# Altium integrated library Altera FLEX 8000.IntLib: 65 symbols (part 1 of 5)
Pins are listed as number, name and electrical type; pins without a type are passive.

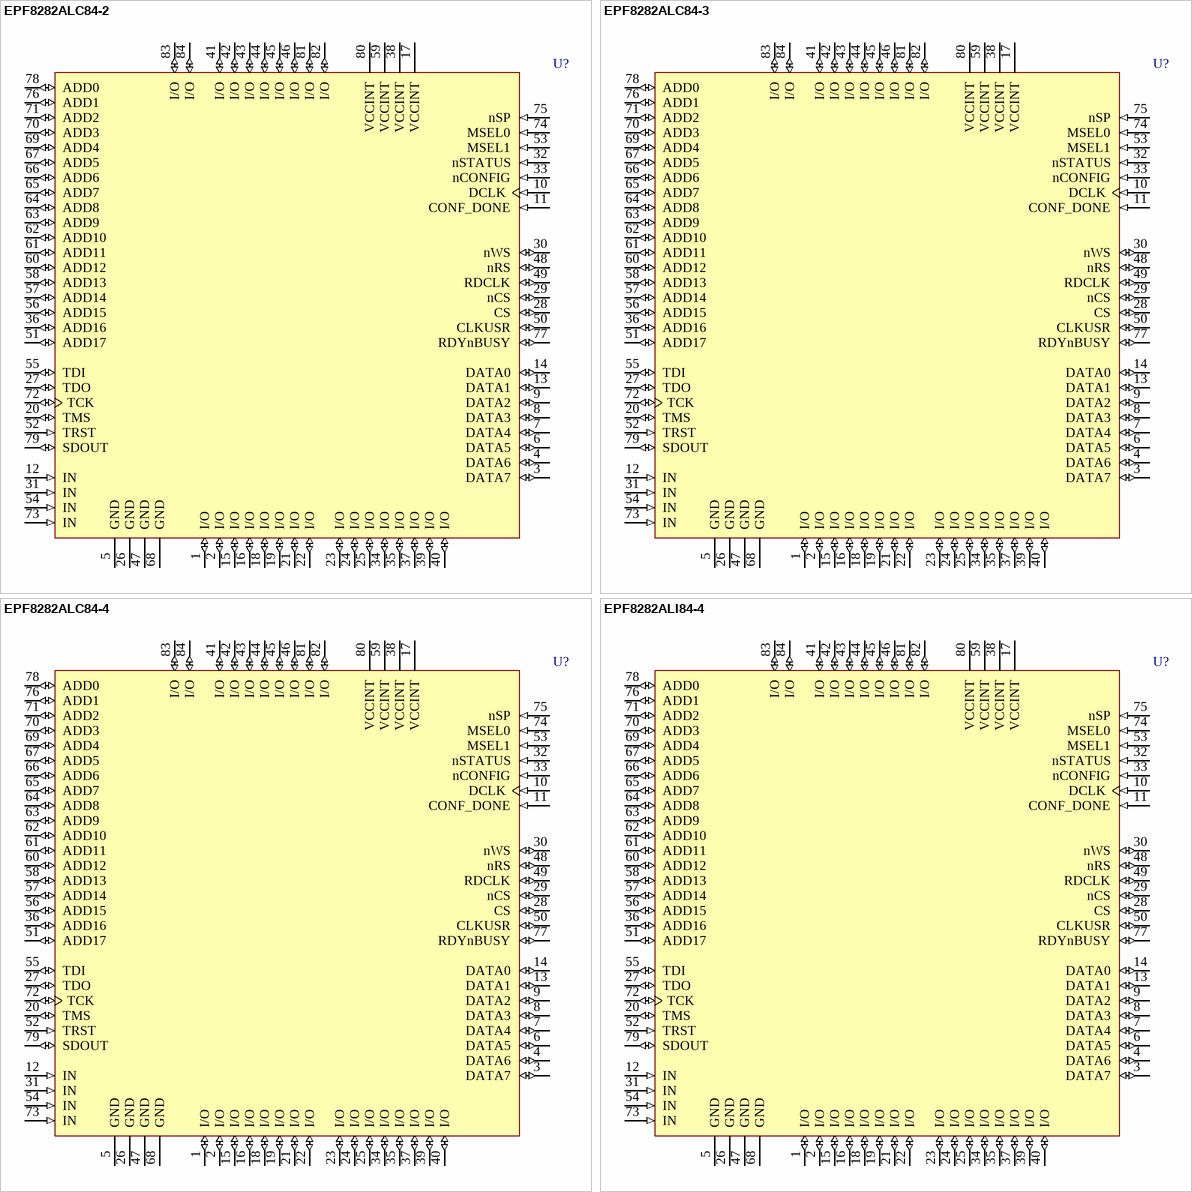
[diagram p0: symbols EPF8282ALC84-2 to EPF8282ALI84-4]

## EPF8282ALC84-2
designator U?
FLEX EPF8282A 5.0V PLD, 68 User IO Pins, 84-Pin PLCC, Speed Grade 2, Commercial Grade; Published: 24-Nov-2000; LatestRevisionDate: 13-Apr-2006; LatestRevisionNote: IPC-7351 Footprint Added.; DatasheetVersion: ver11.1, Jan-2003; PackageVersion: ver14.3, Jul-2006; PackageReference: PLCC84; Publisher: Altium Limited; PackageDescription: 84-Pin Plastic J-Lead Chip Carrier (PLCC84); Supplier 1: Digi-Key; Supplier Part Number 1: 544-2250-5-ND; Code_JEDEC: MS-018-AF; Code_IPC: PLCC-84; ComponentLink1Description: Manufacturer Link; ComponentLink1URL: http://www.altera.com/products/devices/flex8k/f8k-index.html; ComponentLink2Description: Datasheet; ComponentLink2URL: http://www.altera.com/literature/ds/dsf8k.pdf
footprint PLCC84_N (Leaded Chip Carrier, 84-Leads, Body 29.3x29.3mm, Pitch 1.27mm, IPC Medium Density)
footprint PLCC84_L (Leaded Chip Carrier, 84-Leads, Body 29.3x29.3mm, Pitch 1.27mm, IPC High Density)
footprint PLCC84_M (Leaded Chip Carrier, 84-Leads, Body 29.3x29.3mm, Pitch 1.27mm, IPC Low Density)
3D model EPF8282A-PLCC84 (84-Pin Plastic J-Lead Chip Carrier (PLCC84))
pins: 1 I/O (io), 2 I/O (io), 3 DATA7 (io), 4 DATA6 (io), 5 GND (power), 6 DATA5 (io), 7 DATA4 (io), 8 DATA3 (io), 9 DATA2 (io), 10 DCLK (in), 11 CONF_DONE (in), 12 IN (in), 13 DATA1 (io), 14 DATA0 (io), 15 I/O (io), 16 I/O (io), 17 VCCINT (power), 18 I/O (io), 19 I/O (io), 20 TMS (io), 21 I/O (io), 22 I/O (io), 23 I/O (io), 24 I/O (io), 25 I/O (io), 26 GND (power), 27 TDO (io), 28 CS (io), 29 nCS (io), 30 nWS (io), 31 IN (in), 32 nSTATUS (in), 33 nCONFIG (in), 34 I/O (io), 35 I/O (io), 36 ADD16 (io), 37 I/O (io), 38 VCCINT (power), 39 I/O (io), 40 I/O (io), 41 I/O (io), 42 I/O (io), 43 I/O (io), 44 I/O (io), 45 I/O (io), 46 I/O (io), 47 GND (power), 48 nRS (io), 49 RDCLK (io), 50 CLKUSR (io), 51 ADD17 (io), 52 TRST (in), 53 MSEL1 (in), 54 IN (in), 55 TDI (io), 56 ADD15 (io), 57 ADD14 (io), 58 ADD13 (io), 59 VCCINT (power), 60 ADD12 (io), 61 ADD11 (io), 62 ADD10 (io), 63 ADD9 (io), 64 ADD8 (io), 65 ADD7 (io), 66 ADD6 (io), 67 ADD5 (io), 68 GND (power), 69 ADD4 (io), 70 ADD3 (io), 71 ADD2 (io), 72 TCK (io), 73 IN (in), 74 MSEL0 (in), 75 nSP (in), 76 ADD1 (io), 77 RDYnBUSY (io), 78 ADD0 (io), 79 SDOUT (io), 80 VCCINT (power), 81 I/O (io), 82 I/O (io), 83 I/O (io), 84 I/O (io)

## EPF8282ALC84-3
designator U?
FLEX EPF8282A 5.0V PLD, 68 User IO Pins, 84-Pin PLCC, Speed Grade 3, Commercial Grade; Published: 24-Nov-2000; LatestRevisionDate: 13-Apr-2006; LatestRevisionNote: IPC-7351 Footprint Added.; DatasheetVersion: ver11.1, Jan-2003; PackageVersion: ver14.3, Jul-2006; PackageReference: PLCC84; Publisher: Altium Limited; PackageDescription: 84-Pin Plastic J-Lead Chip Carrier (PLCC84); Code_JEDEC: MS-018-AF; Code_IPC: PLCC-84; ComponentLink1Description: Manufacturer Link; ComponentLink1URL: http://www.altera.com/products/devices/flex8k/f8k-index.html; ComponentLink2Description: Datasheet; ComponentLink2URL: http://www.altera.com/literature/ds/dsf8k.pdf
footprint PLCC84_N (Leaded Chip Carrier, 84-Leads, Body 29.3x29.3mm, Pitch 1.27mm, IPC Medium Density)
footprint PLCC84_L (Leaded Chip Carrier, 84-Leads, Body 29.3x29.3mm, Pitch 1.27mm, IPC High Density)
footprint PLCC84_M (Leaded Chip Carrier, 84-Leads, Body 29.3x29.3mm, Pitch 1.27mm, IPC Low Density)
3D model EPF8282A-PLCC84 (84-Pin Plastic J-Lead Chip Carrier (PLCC84))
pins: 1 I/O (io), 2 I/O (io), 3 DATA7 (io), 4 DATA6 (io), 5 GND (power), 6 DATA5 (io), 7 DATA4 (io), 8 DATA3 (io), 9 DATA2 (io), 10 DCLK (in), 11 CONF_DONE (in), 12 IN (in), 13 DATA1 (io), 14 DATA0 (io), 15 I/O (io), 16 I/O (io), 17 VCCINT (power), 18 I/O (io), 19 I/O (io), 20 TMS (io), 21 I/O (io), 22 I/O (io), 23 I/O (io), 24 I/O (io), 25 I/O (io), 26 GND (power), 27 TDO (io), 28 CS (io), 29 nCS (io), 30 nWS (io), 31 IN (in), 32 nSTATUS (in), 33 nCONFIG (in), 34 I/O (io), 35 I/O (io), 36 ADD16 (io), 37 I/O (io), 38 VCCINT (power), 39 I/O (io), 40 I/O (io), 41 I/O (io), 42 I/O (io), 43 I/O (io), 44 I/O (io), 45 I/O (io), 46 I/O (io), 47 GND (power), 48 nRS (io), 49 RDCLK (io), 50 CLKUSR (io), 51 ADD17 (io), 52 TRST (in), 53 MSEL1 (in), 54 IN (in), 55 TDI (io), 56 ADD15 (io), 57 ADD14 (io), 58 ADD13 (io), 59 VCCINT (power), 60 ADD12 (io), 61 ADD11 (io), 62 ADD10 (io), 63 ADD9 (io), 64 ADD8 (io), 65 ADD7 (io), 66 ADD6 (io), 67 ADD5 (io), 68 GND (power), 69 ADD4 (io), 70 ADD3 (io), 71 ADD2 (io), 72 TCK (io), 73 IN (in), 74 MSEL0 (in), 75 nSP (in), 76 ADD1 (io), 77 RDYnBUSY (io), 78 ADD0 (io), 79 SDOUT (io), 80 VCCINT (power), 81 I/O (io), 82 I/O (io), 83 I/O (io), 84 I/O (io)

## EPF8282ALC84-4
designator U?
FLEX EPF8282A 5.0V PLD, 68 User IO Pins, 84-Pin PLCC, Speed Grade 4, Commercial Grade; Published: 24-Nov-2000; LatestRevisionDate: 13-Apr-2006; LatestRevisionNote: IPC-7351 Footprint Added.; DatasheetVersion: ver11.1, Jan-2003; PackageVersion: ver14.3, Jul-2006; PackageReference: PLCC84; Publisher: Altium Limited; PackageDescription: 84-Pin Plastic J-Lead Chip Carrier (PLCC84); Supplier 1: Digi-Key; Supplier Part Number 1: 544-2251-5-ND; Code_JEDEC: MS-018-AF; Code_IPC: PLCC-84; ComponentLink1Description: Manufacturer Link; ComponentLink1URL: http://www.altera.com/products/devices/flex8k/f8k-index.html; ComponentLink2Description: Datasheet; ComponentLink2URL: http://www.altera.com/literature/ds/dsf8k.pdf
footprint PLCC84_N (Leaded Chip Carrier, 84-Leads, Body 29.3x29.3mm, Pitch 1.27mm, IPC Medium Density)
footprint PLCC84_L (Leaded Chip Carrier, 84-Leads, Body 29.3x29.3mm, Pitch 1.27mm, IPC High Density)
footprint PLCC84_M (Leaded Chip Carrier, 84-Leads, Body 29.3x29.3mm, Pitch 1.27mm, IPC Low Density)
3D model EPF8282A-PLCC84 (84-Pin Plastic J-Lead Chip Carrier (PLCC84))
pins: 1 I/O (io), 2 I/O (io), 3 DATA7 (io), 4 DATA6 (io), 5 GND (power), 6 DATA5 (io), 7 DATA4 (io), 8 DATA3 (io), 9 DATA2 (io), 10 DCLK (in), 11 CONF_DONE (in), 12 IN (in), 13 DATA1 (io), 14 DATA0 (io), 15 I/O (io), 16 I/O (io), 17 VCCINT (power), 18 I/O (io), 19 I/O (io), 20 TMS (io), 21 I/O (io), 22 I/O (io), 23 I/O (io), 24 I/O (io), 25 I/O (io), 26 GND (power), 27 TDO (io), 28 CS (io), 29 nCS (io), 30 nWS (io), 31 IN (in), 32 nSTATUS (in), 33 nCONFIG (in), 34 I/O (io), 35 I/O (io), 36 ADD16 (io), 37 I/O (io), 38 VCCINT (power), 39 I/O (io), 40 I/O (io), 41 I/O (io), 42 I/O (io), 43 I/O (io), 44 I/O (io), 45 I/O (io), 46 I/O (io), 47 GND (power), 48 nRS (io), 49 RDCLK (io), 50 CLKUSR (io), 51 ADD17 (io), 52 TRST (in), 53 MSEL1 (in), 54 IN (in), 55 TDI (io), 56 ADD15 (io), 57 ADD14 (io), 58 ADD13 (io), 59 VCCINT (power), 60 ADD12 (io), 61 ADD11 (io), 62 ADD10 (io), 63 ADD9 (io), 64 ADD8 (io), 65 ADD7 (io), 66 ADD6 (io), 67 ADD5 (io), 68 GND (power), 69 ADD4 (io), 70 ADD3 (io), 71 ADD2 (io), 72 TCK (io), 73 IN (in), 74 MSEL0 (in), 75 nSP (in), 76 ADD1 (io), 77 RDYnBUSY (io), 78 ADD0 (io), 79 SDOUT (io), 80 VCCINT (power), 81 I/O (io), 82 I/O (io), 83 I/O (io), 84 I/O (io)

## EPF8282ALI84-4
designator U?
FLEX EPF8282A 5.0V PLD, 68 User IO Pins, 84-Pin PLCC, Speed Grade 4, Industrial Grade; ComponentAvailability: Obsolete; Published: 24-Nov-2000; LatestRevisionDate: 13-Apr-2006; LatestRevisionNote: IPC-7351 Footprint Added.; DatasheetVersion: Jun-1999; PackageVersion: ver14.3, Jul-2006; PackageReference: PLCC84; Publisher: Altium Limited; PackageDescription: 84-Pin Plastic J-Lead Chip Carrier (PLCC84); Code_JEDEC: MS-018-AF; Code_IPC: PLCC-84; ComponentLink1Description: Manufacturer Link; ComponentLink1URL: http://www.altera.com/products/devices/flex8k/f8k-index.html; ComponentLink2Description: Datasheet; ComponentLink2URL: http://www.altera.com/literature/ds/dsf8k.pdf; ComponentLink3Description: Discontinuation Notice; ComponentLink3URL: http://www.altera.com/literature/pcn/pdn0314.pdf
footprint PLCC84_N (Leaded Chip Carrier, 84-Leads, Body 29.3x29.3mm, Pitch 1.27mm, IPC Medium Density)
footprint PLCC84_L (Leaded Chip Carrier, 84-Leads, Body 29.3x29.3mm, Pitch 1.27mm, IPC High Density)
footprint PLCC84_M (Leaded Chip Carrier, 84-Leads, Body 29.3x29.3mm, Pitch 1.27mm, IPC Low Density)
3D model EPF8282A-PLCC84 (84-Pin Plastic J-Lead Chip Carrier (PLCC84))
pins: 1 I/O (io), 2 I/O (io), 3 DATA7 (io), 4 DATA6 (io), 5 GND (power), 6 DATA5 (io), 7 DATA4 (io), 8 DATA3 (io), 9 DATA2 (io), 10 DCLK (in), 11 CONF_DONE (in), 12 IN (in), 13 DATA1 (io), 14 DATA0 (io), 15 I/O (io), 16 I/O (io), 17 VCCINT (power), 18 I/O (io), 19 I/O (io), 20 TMS (io), 21 I/O (io), 22 I/O (io), 23 I/O (io), 24 I/O (io), 25 I/O (io), 26 GND (power), 27 TDO (io), 28 CS (io), 29 nCS (io), 30 nWS (io), 31 IN (in), 32 nSTATUS (in), 33 nCONFIG (in), 34 I/O (io), 35 I/O (io), 36 ADD16 (io), 37 I/O (io), 38 VCCINT (power), 39 I/O (io), 40 I/O (io), 41 I/O (io), 42 I/O (io), 43 I/O (io), 44 I/O (io), 45 I/O (io), 46 I/O (io), 47 GND (power), 48 nRS (io), 49 RDCLK (io), 50 CLKUSR (io), 51 ADD17 (io), 52 TRST (in), 53 MSEL1 (in), 54 IN (in), 55 TDI (io), 56 ADD15 (io), 57 ADD14 (io), 58 ADD13 (io), 59 VCCINT (power), 60 ADD12 (io), 61 ADD11 (io), 62 ADD10 (io), 63 ADD9 (io), 64 ADD8 (io), 65 ADD7 (io), 66 ADD6 (io), 67 ADD5 (io), 68 GND (power), 69 ADD4 (io), 70 ADD3 (io), 71 ADD2 (io), 72 TCK (io), 73 IN (in), 74 MSEL0 (in), 75 nSP (in), 76 ADD1 (io), 77 RDYnBUSY (io), 78 ADD0 (io), 79 SDOUT (io), 80 VCCINT (power), 81 I/O (io), 82 I/O (io), 83 I/O (io), 84 I/O (io)

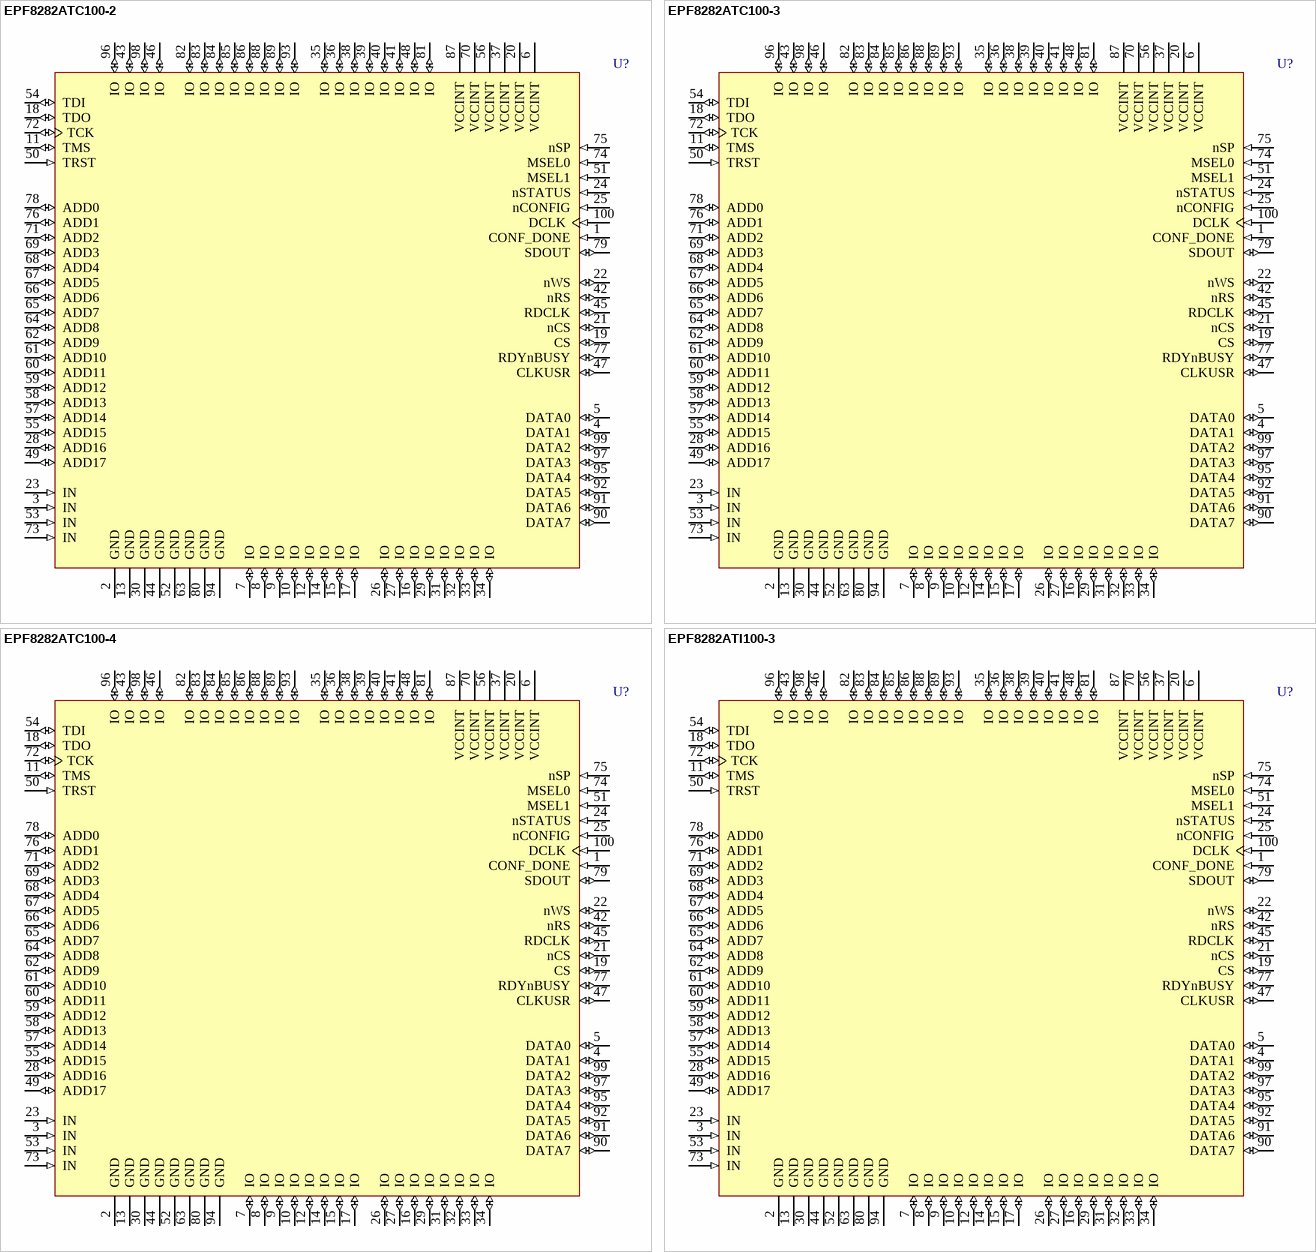
[diagram p1: symbols EPF8282ATC100-2 to EPF8282ATI100-3]

## EPF8282ATC100-2
designator U?
FLEX EPF8282A 5.0V PLD, 78 User IO Pins, 100-Pin TQFP, Speed Grade 2, Commercial Grade; Published: 24-Nov-2000; LatestRevisionDate: 13-Apr-2006; LatestRevisionNote: IPC-7351 Footprint Added.; DatasheetVersion: ver11.1, Jan-2003; PackageVersion: ver15.1, May-2008; PackageReference: TQFP100; Publisher: Altium Limited; PackageDescription: 100-Pin Plastic Thin Quad Flat Pack (TQFP100) - Wire Bond; Supplier 1: Digi-Key; Supplier Part Number 1: 544-2252-ND; Code_JEDEC: MS-026-AED; ComponentLink1Description: Manufacturer Link; ComponentLink1URL: http://www.altera.com/products/devices/flex8k/f8k-index.html; ComponentLink2Description: Datasheet; ComponentLink2URL: http://www.altera.com/literature/ds/dsf8k.pdf
footprint TQFP100_N (Thin QFP, 100-Leads, Body 14x14mm, Pitch 0.5mm, IPC Medium Density)
footprint TQFP100_L (Thin QFP, 100-Leads, Body 14x14mm, Pitch 0.5mm, IPC High Density)
footprint TQFP100_M (Thin QFP, 100-Leads, Body 14x14mm, Pitch 0.5mm, IPC Low Density)
3D model EPF8282A-TQFP100 (100-Pin Plastic Thin Quad Flat Pack (TQFP100) - Wire Bond)
pins: 1 CONF_DONE (in), 2 GND (power), 3 IN (in), 4 DATA1 (io), 5 DATA0 (io), 6 VCCINT (power), 7 IO (io), 8 IO (io), 9 IO (io), 10 IO (io), 11 TMS (io), 12 IO (io), 13 GND (power), 14 IO (io), 15 IO (io), 16 IO (io), 17 IO (io), 18 TDO (io), 19 CS (io), 20 VCCINT (power), 21 nCS (io), 22 nWS (io), 23 IN (in), 24 nSTATUS (in), 25 nCONFIG (in), 26 IO (io), 27 IO (io), 28 ADD16 (io), 29 IO (io), 30 GND (power), 31 IO (io), 32 IO (io), 33 IO (io), 34 IO (io), 35 IO (io), 36 IO (io), 37 VCCINT (power), 38 IO (io), 39 IO (io), 40 IO (io), 41 IO (io), 42 nRS (io), 43 IO (io), 44 GND (power), 45 RDCLK (io), 46 IO (io), 47 CLKUSR (io), 48 IO (io), 49 ADD17 (io), 50 TRST (in), 51 MSEL1 (in), 52 GND (power), 53 IN (in), 54 TDI (io), 55 ADD15 (io), 56 VCCINT (power), 57 ADD14 (io), 58 ADD13 (io), 59 ADD12 (io), 60 ADD11 (io), 61 ADD10 (io), 62 ADD9 (io), 63 GND (power), 64 ADD8 (io), 65 ADD7 (io), 66 ADD6 (io), 67 ADD5 (io), 68 ADD4 (io), 69 ADD3 (io), 70 VCCINT (power), 71 ADD2 (io), 72 TCK (io), 73 IN (in), 74 MSEL0 (in), 75 nSP (in), 76 ADD1 (io), 77 RDYnBUSY (io), 78 ADD0 (io), 79 SDOUT (io), 80 GND (power), 81 IO (io), 82 IO (io), 83 IO (io), 84 IO (io), 85 IO (io), 86 IO (io), 87 VCCINT (power), 88 IO (io), 89 IO (io), 90 DATA7 (io), 91 DATA6 (io), 92 DATA5 (io), 93 IO (io), 94 GND (power), 95 DATA4 (io), 96 IO (io), 97 DATA3 (io), 98 IO (io), 99 DATA2 (io), 100 DCLK (in)

## EPF8282ATC100-3
designator U?
FLEX EPF8282A 5.0V PLD, 78 User IO Pins, 100-Pin TQFP, Speed Grade 3, Commercial Grade; Published: 24-Nov-2000; LatestRevisionDate: 13-Apr-2006; LatestRevisionNote: IPC-7351 Footprint Added.; DatasheetVersion: ver11.1, Jan-2003; PackageVersion: ver15.1, May-2008; PackageReference: TQFP100; Publisher: Altium Limited; PackageDescription: 100-Pin Plastic Thin Quad Flat Pack (TQFP100) - Wire Bond; Supplier 1: Digi-Key; Supplier Part Number 1: 544-2253-ND; Code_JEDEC: MS-026-AED; ComponentLink1Description: Manufacturer Link; ComponentLink1URL: http://www.altera.com/products/devices/flex8k/f8k-index.html; ComponentLink2Description: Datasheet; ComponentLink2URL: http://www.altera.com/literature/ds/dsf8k.pdf
footprint TQFP100_N (Thin QFP, 100-Leads, Body 14x14mm, Pitch 0.5mm, IPC Medium Density)
footprint TQFP100_L (Thin QFP, 100-Leads, Body 14x14mm, Pitch 0.5mm, IPC High Density)
footprint TQFP100_M (Thin QFP, 100-Leads, Body 14x14mm, Pitch 0.5mm, IPC Low Density)
3D model EPF8282A-TQFP100 (100-Pin Plastic Thin Quad Flat Pack (TQFP100) - Wire Bond)
pins: 1 CONF_DONE (in), 2 GND (power), 3 IN (in), 4 DATA1 (io), 5 DATA0 (io), 6 VCCINT (power), 7 IO (io), 8 IO (io), 9 IO (io), 10 IO (io), 11 TMS (io), 12 IO (io), 13 GND (power), 14 IO (io), 15 IO (io), 16 IO (io), 17 IO (io), 18 TDO (io), 19 CS (io), 20 VCCINT (power), 21 nCS (io), 22 nWS (io), 23 IN (in), 24 nSTATUS (in), 25 nCONFIG (in), 26 IO (io), 27 IO (io), 28 ADD16 (io), 29 IO (io), 30 GND (power), 31 IO (io), 32 IO (io), 33 IO (io), 34 IO (io), 35 IO (io), 36 IO (io), 37 VCCINT (power), 38 IO (io), 39 IO (io), 40 IO (io), 41 IO (io), 42 nRS (io), 43 IO (io), 44 GND (power), 45 RDCLK (io), 46 IO (io), 47 CLKUSR (io), 48 IO (io), 49 ADD17 (io), 50 TRST (in), 51 MSEL1 (in), 52 GND (power), 53 IN (in), 54 TDI (io), 55 ADD15 (io), 56 VCCINT (power), 57 ADD14 (io), 58 ADD13 (io), 59 ADD12 (io), 60 ADD11 (io), 61 ADD10 (io), 62 ADD9 (io), 63 GND (power), 64 ADD8 (io), 65 ADD7 (io), 66 ADD6 (io), 67 ADD5 (io), 68 ADD4 (io), 69 ADD3 (io), 70 VCCINT (power), 71 ADD2 (io), 72 TCK (io), 73 IN (in), 74 MSEL0 (in), 75 nSP (in), 76 ADD1 (io), 77 RDYnBUSY (io), 78 ADD0 (io), 79 SDOUT (io), 80 GND (power), 81 IO (io), 82 IO (io), 83 IO (io), 84 IO (io), 85 IO (io), 86 IO (io), 87 VCCINT (power), 88 IO (io), 89 IO (io), 90 DATA7 (io), 91 DATA6 (io), 92 DATA5 (io), 93 IO (io), 94 GND (power), 95 DATA4 (io), 96 IO (io), 97 DATA3 (io), 98 IO (io), 99 DATA2 (io), 100 DCLK (in)

## EPF8282ATC100-4
designator U?
FLEX EPF8282A 5.0V PLD, 78 User IO Pins, 100-Pin TQFP, Speed Grade 4, Commercial Grade; Published: 24-Nov-2000; LatestRevisionDate: 13-Apr-2006; LatestRevisionNote: IPC-7351 Footprint Added.; DatasheetVersion: ver11.1, Jan-2003; PackageVersion: ver15.1, May-2008; PackageReference: TQFP100; Publisher: Altium Limited; PackageDescription: 100-Pin Plastic Thin Quad Flat Pack (TQFP100) - Wire Bond; Supplier 1: Digi-Key; Supplier Part Number 1: 544-2254-ND; Code_JEDEC: MS-026-AED; ComponentLink1Description: Manufacturer Link; ComponentLink1URL: http://www.altera.com/products/devices/flex8k/f8k-index.html; ComponentLink2Description: Datasheet; ComponentLink2URL: http://www.altera.com/literature/ds/dsf8k.pdf
footprint TQFP100_N (Thin QFP, 100-Leads, Body 14x14mm, Pitch 0.5mm, IPC Medium Density)
footprint TQFP100_L (Thin QFP, 100-Leads, Body 14x14mm, Pitch 0.5mm, IPC High Density)
footprint TQFP100_M (Thin QFP, 100-Leads, Body 14x14mm, Pitch 0.5mm, IPC Low Density)
3D model EPF8282A-TQFP100 (100-Pin Plastic Thin Quad Flat Pack (TQFP100) - Wire Bond)
pins: 1 CONF_DONE (in), 2 GND (power), 3 IN (in), 4 DATA1 (io), 5 DATA0 (io), 6 VCCINT (power), 7 IO (io), 8 IO (io), 9 IO (io), 10 IO (io), 11 TMS (io), 12 IO (io), 13 GND (power), 14 IO (io), 15 IO (io), 16 IO (io), 17 IO (io), 18 TDO (io), 19 CS (io), 20 VCCINT (power), 21 nCS (io), 22 nWS (io), 23 IN (in), 24 nSTATUS (in), 25 nCONFIG (in), 26 IO (io), 27 IO (io), 28 ADD16 (io), 29 IO (io), 30 GND (power), 31 IO (io), 32 IO (io), 33 IO (io), 34 IO (io), 35 IO (io), 36 IO (io), 37 VCCINT (power), 38 IO (io), 39 IO (io), 40 IO (io), 41 IO (io), 42 nRS (io), 43 IO (io), 44 GND (power), 45 RDCLK (io), 46 IO (io), 47 CLKUSR (io), 48 IO (io), 49 ADD17 (io), 50 TRST (in), 51 MSEL1 (in), 52 GND (power), 53 IN (in), 54 TDI (io), 55 ADD15 (io), 56 VCCINT (power), 57 ADD14 (io), 58 ADD13 (io), 59 ADD12 (io), 60 ADD11 (io), 61 ADD10 (io), 62 ADD9 (io), 63 GND (power), 64 ADD8 (io), 65 ADD7 (io), 66 ADD6 (io), 67 ADD5 (io), 68 ADD4 (io), 69 ADD3 (io), 70 VCCINT (power), 71 ADD2 (io), 72 TCK (io), 73 IN (in), 74 MSEL0 (in), 75 nSP (in), 76 ADD1 (io), 77 RDYnBUSY (io), 78 ADD0 (io), 79 SDOUT (io), 80 GND (power), 81 IO (io), 82 IO (io), 83 IO (io), 84 IO (io), 85 IO (io), 86 IO (io), 87 VCCINT (power), 88 IO (io), 89 IO (io), 90 DATA7 (io), 91 DATA6 (io), 92 DATA5 (io), 93 IO (io), 94 GND (power), 95 DATA4 (io), 96 IO (io), 97 DATA3 (io), 98 IO (io), 99 DATA2 (io), 100 DCLK (in)

## EPF8282ATI100-3
designator U?
FLEX EPF8282A 5.0V PLD, 78 User IO Pins, 100-Pin TQFP, Speed Grade 3, Industrial Grade; Published: 24-Nov-2000; LatestRevisionDate: 13-Apr-2006; LatestRevisionNote: IPC-7351 Footprint Added.; DatasheetVersion: ver11.1, Jan-2003; PackageVersion: ver15.1, May-2008; PackageReference: TQFP100; Publisher: Altium Limited; PackageDescription: 100-Pin Plastic Thin Quad Flat Pack (TQFP100) - Wire Bond; Code_JEDEC: MS-026-AED; ComponentLink1Description: Manufacturer Link; ComponentLink1URL: http://www.altera.com/products/devices/flex8k/f8k-index.html; ComponentLink2Description: Datasheet; ComponentLink2URL: http://www.altera.com/literature/ds/dsf8k.pdf
footprint TQFP100_N (Thin QFP, 100-Leads, Body 14x14mm, Pitch 0.5mm, IPC Medium Density)
footprint TQFP100_L (Thin QFP, 100-Leads, Body 14x14mm, Pitch 0.5mm, IPC High Density)
footprint TQFP100_M (Thin QFP, 100-Leads, Body 14x14mm, Pitch 0.5mm, IPC Low Density)
3D model EPF8282A-TQFP100 (100-Pin Plastic Thin Quad Flat Pack (TQFP100) - Wire Bond)
pins: 1 CONF_DONE (in), 2 GND (power), 3 IN (in), 4 DATA1 (io), 5 DATA0 (io), 6 VCCINT (power), 7 IO (io), 8 IO (io), 9 IO (io), 10 IO (io), 11 TMS (io), 12 IO (io), 13 GND (power), 14 IO (io), 15 IO (io), 16 IO (io), 17 IO (io), 18 TDO (io), 19 CS (io), 20 VCCINT (power), 21 nCS (io), 22 nWS (io), 23 IN (in), 24 nSTATUS (in), 25 nCONFIG (in), 26 IO (io), 27 IO (io), 28 ADD16 (io), 29 IO (io), 30 GND (power), 31 IO (io), 32 IO (io), 33 IO (io), 34 IO (io), 35 IO (io), 36 IO (io), 37 VCCINT (power), 38 IO (io), 39 IO (io), 40 IO (io), 41 IO (io), 42 nRS (io), 43 IO (io), 44 GND (power), 45 RDCLK (io), 46 IO (io), 47 CLKUSR (io), 48 IO (io), 49 ADD17 (io), 50 TRST (in), 51 MSEL1 (in), 52 GND (power), 53 IN (in), 54 TDI (io), 55 ADD15 (io), 56 VCCINT (power), 57 ADD14 (io), 58 ADD13 (io), 59 ADD12 (io), 60 ADD11 (io), 61 ADD10 (io), 62 ADD9 (io), 63 GND (power), 64 ADD8 (io), 65 ADD7 (io), 66 ADD6 (io), 67 ADD5 (io), 68 ADD4 (io), 69 ADD3 (io), 70 VCCINT (power), 71 ADD2 (io), 72 TCK (io), 73 IN (in), 74 MSEL0 (in), 75 nSP (in), 76 ADD1 (io), 77 RDYnBUSY (io), 78 ADD0 (io), 79 SDOUT (io), 80 GND (power), 81 IO (io), 82 IO (io), 83 IO (io), 84 IO (io), 85 IO (io), 86 IO (io), 87 VCCINT (power), 88 IO (io), 89 IO (io), 90 DATA7 (io), 91 DATA6 (io), 92 DATA5 (io), 93 IO (io), 94 GND (power), 95 DATA4 (io), 96 IO (io), 97 DATA3 (io), 98 IO (io), 99 DATA2 (io), 100 DCLK (in)

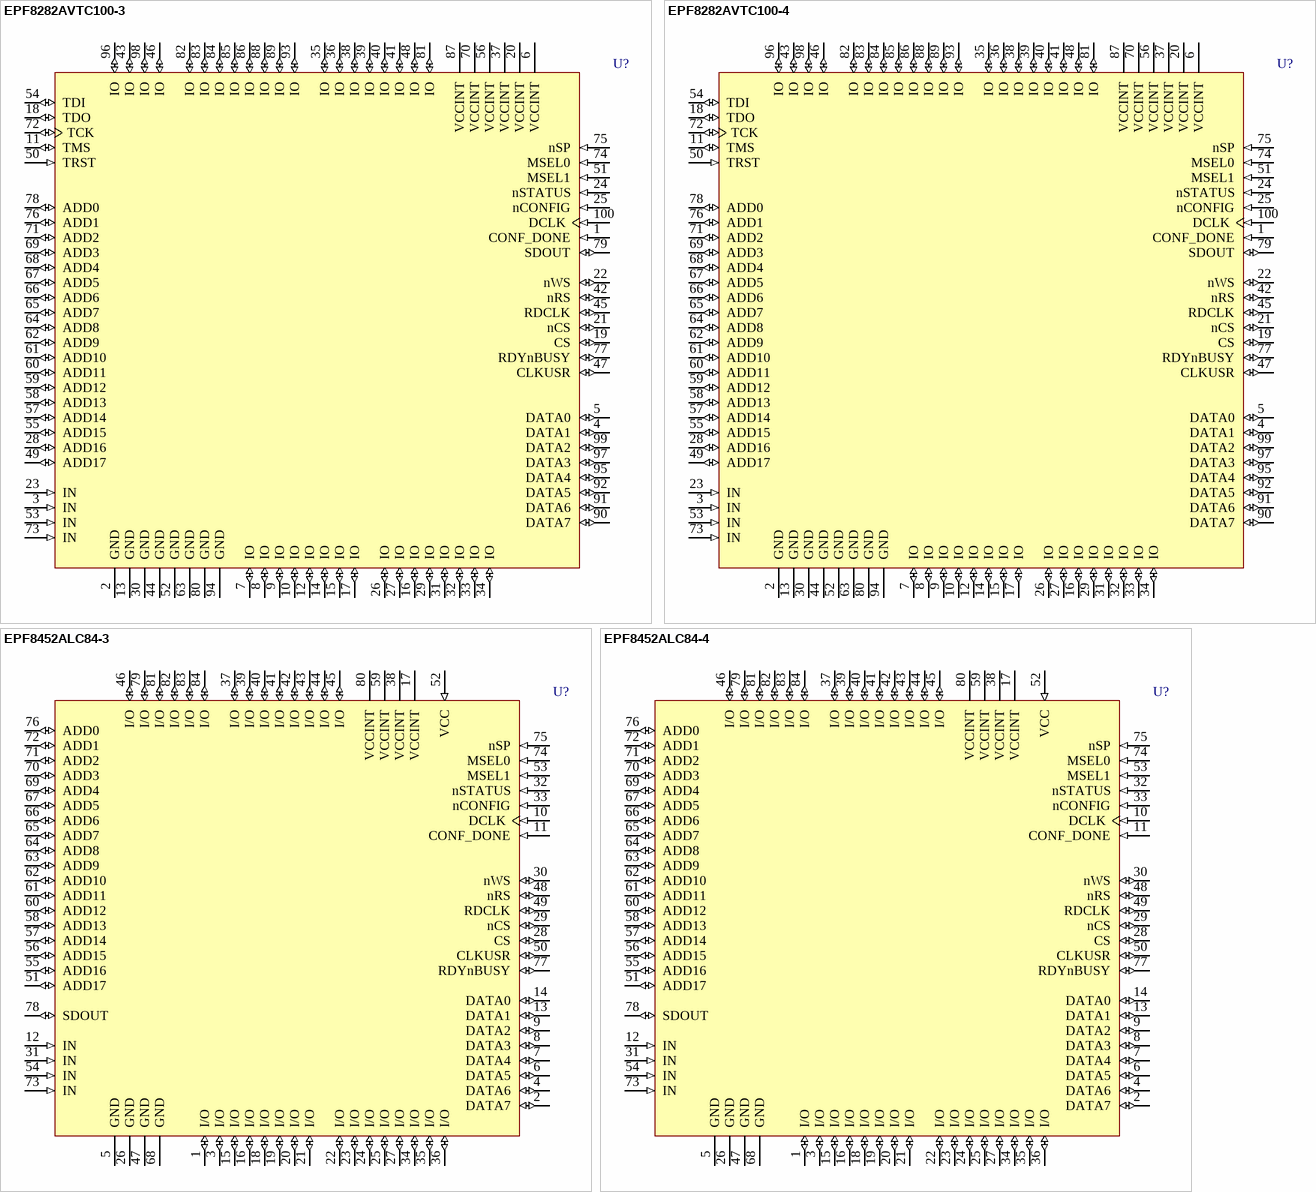
[diagram p2: symbols EPF8282AVTC100-3 to EPF8452ALC84-4]

## EPF8282AVTC100-3
designator U?
FLEX EPF8282AV 3.3V PLD, 78 User IO Pins, 100-Pin TQFP, Speed Grade 3, Commercial Grade; Published: 24-Nov-2000; LatestRevisionDate: 13-Apr-2006; LatestRevisionNote: IPC-7351 Footprint Added.; DatasheetVersion: ver11.1, Jan-2003; PackageVersion: ver15.1, May-2008; PackageReference: TQFP100; Publisher: Altium Limited; PackageDescription: 100-Pin Plastic Thin Quad Flat Pack (TQFP100) - Wire Bond; Code_JEDEC: MS-026-AED; ComponentLink1Description: Manufacturer Link; ComponentLink1URL: http://www.altera.com/products/devices/flex8k/f8k-index.html; ComponentLink2Description: Datasheet; ComponentLink2URL: http://www.altera.com/literature/ds/dsf8k.pdf
footprint TQFP100_N (Thin QFP, 100-Leads, Body 14x14mm, Pitch 0.5mm, IPC Medium Density)
footprint TQFP100_L (Thin QFP, 100-Leads, Body 14x14mm, Pitch 0.5mm, IPC High Density)
footprint TQFP100_M (Thin QFP, 100-Leads, Body 14x14mm, Pitch 0.5mm, IPC Low Density)
3D model EPF8282AV-TQFP100 (100-Pin Plastic Thin Quad Flat Pack (TQFP100) - Wire Bond)
pins: 1 CONF_DONE (in), 2 GND (power), 3 IN (in), 4 DATA1 (io), 5 DATA0 (io), 6 VCCINT (power), 7 IO (io), 8 IO (io), 9 IO (io), 10 IO (io), 11 TMS (io), 12 IO (io), 13 GND (power), 14 IO (io), 15 IO (io), 16 IO (io), 17 IO (io), 18 TDO (io), 19 CS (io), 20 VCCINT (power), 21 nCS (io), 22 nWS (io), 23 IN (in), 24 nSTATUS (in), 25 nCONFIG (in), 26 IO (io), 27 IO (io), 28 ADD16 (io), 29 IO (io), 30 GND (power), 31 IO (io), 32 IO (io), 33 IO (io), 34 IO (io), 35 IO (io), 36 IO (io), 37 VCCINT (power), 38 IO (io), 39 IO (io), 40 IO (io), 41 IO (io), 42 nRS (io), 43 IO (io), 44 GND (power), 45 RDCLK (io), 46 IO (io), 47 CLKUSR (io), 48 IO (io), 49 ADD17 (io), 50 TRST (in), 51 MSEL1 (in), 52 GND (power), 53 IN (in), 54 TDI (io), 55 ADD15 (io), 56 VCCINT (power), 57 ADD14 (io), 58 ADD13 (io), 59 ADD12 (io), 60 ADD11 (io), 61 ADD10 (io), 62 ADD9 (io), 63 GND (power), 64 ADD8 (io), 65 ADD7 (io), 66 ADD6 (io), 67 ADD5 (io), 68 ADD4 (io), 69 ADD3 (io), 70 VCCINT (power), 71 ADD2 (io), 72 TCK (io), 73 IN (in), 74 MSEL0 (in), 75 nSP (in), 76 ADD1 (io), 77 RDYnBUSY (io), 78 ADD0 (io), 79 SDOUT (io), 80 GND (power), 81 IO (io), 82 IO (io), 83 IO (io), 84 IO (io), 85 IO (io), 86 IO (io), 87 VCCINT (power), 88 IO (io), 89 IO (io), 90 DATA7 (io), 91 DATA6 (io), 92 DATA5 (io), 93 IO (io), 94 GND (power), 95 DATA4 (io), 96 IO (io), 97 DATA3 (io), 98 IO (io), 99 DATA2 (io), 100 DCLK (in)

## EPF8282AVTC100-4
designator U?
FLEX EPF8282AV 3.3V PLD, 78 User IO Pins, 100-Pin TQFP, Speed Grade 4, Commercial Grade; Published: 24-Nov-2000; LatestRevisionDate: 13-Apr-2006; LatestRevisionNote: IPC-7351 Footprint Added.; DatasheetVersion: ver11.1, Jan-2003; PackageVersion: ver15.1, May-2008; PackageReference: TQFP100; Publisher: Altium Limited; PackageDescription: 100-Pin Plastic Thin Quad Flat Pack (TQFP100) - Wire Bond; Code_JEDEC: MS-026-AED; ComponentLink1Description: Manufacturer Link; ComponentLink1URL: http://www.altera.com/products/devices/flex8k/f8k-index.html; ComponentLink2Description: Datasheet; ComponentLink2URL: http://www.altera.com/literature/ds/dsf8k.pdf
footprint TQFP100_N (Thin QFP, 100-Leads, Body 14x14mm, Pitch 0.5mm, IPC Medium Density)
footprint TQFP100_L (Thin QFP, 100-Leads, Body 14x14mm, Pitch 0.5mm, IPC High Density)
footprint TQFP100_M (Thin QFP, 100-Leads, Body 14x14mm, Pitch 0.5mm, IPC Low Density)
3D model EPF8282AV-TQFP100 (100-Pin Plastic Thin Quad Flat Pack (TQFP100) - Wire Bond)
pins: 1 CONF_DONE (in), 2 GND (power), 3 IN (in), 4 DATA1 (io), 5 DATA0 (io), 6 VCCINT (power), 7 IO (io), 8 IO (io), 9 IO (io), 10 IO (io), 11 TMS (io), 12 IO (io), 13 GND (power), 14 IO (io), 15 IO (io), 16 IO (io), 17 IO (io), 18 TDO (io), 19 CS (io), 20 VCCINT (power), 21 nCS (io), 22 nWS (io), 23 IN (in), 24 nSTATUS (in), 25 nCONFIG (in), 26 IO (io), 27 IO (io), 28 ADD16 (io), 29 IO (io), 30 GND (power), 31 IO (io), 32 IO (io), 33 IO (io), 34 IO (io), 35 IO (io), 36 IO (io), 37 VCCINT (power), 38 IO (io), 39 IO (io), 40 IO (io), 41 IO (io), 42 nRS (io), 43 IO (io), 44 GND (power), 45 RDCLK (io), 46 IO (io), 47 CLKUSR (io), 48 IO (io), 49 ADD17 (io), 50 TRST (in), 51 MSEL1 (in), 52 GND (power), 53 IN (in), 54 TDI (io), 55 ADD15 (io), 56 VCCINT (power), 57 ADD14 (io), 58 ADD13 (io), 59 ADD12 (io), 60 ADD11 (io), 61 ADD10 (io), 62 ADD9 (io), 63 GND (power), 64 ADD8 (io), 65 ADD7 (io), 66 ADD6 (io), 67 ADD5 (io), 68 ADD4 (io), 69 ADD3 (io), 70 VCCINT (power), 71 ADD2 (io), 72 TCK (io), 73 IN (in), 74 MSEL0 (in), 75 nSP (in), 76 ADD1 (io), 77 RDYnBUSY (io), 78 ADD0 (io), 79 SDOUT (io), 80 GND (power), 81 IO (io), 82 IO (io), 83 IO (io), 84 IO (io), 85 IO (io), 86 IO (io), 87 VCCINT (power), 88 IO (io), 89 IO (io), 90 DATA7 (io), 91 DATA6 (io), 92 DATA5 (io), 93 IO (io), 94 GND (power), 95 DATA4 (io), 96 IO (io), 97 DATA3 (io), 98 IO (io), 99 DATA2 (io), 100 DCLK (in)

## EPF8452ALC84-3
designator U?
FLEX EPF8452A 5.0V PLD, 68 User IO Pins, 84-Pin PLCC, Speed Grade 3, Commercial Grade; Published: 24-Nov-2000; LatestRevisionDate: 13-Apr-2006; LatestRevisionNote: IPC-7351 Footprint Added.; DatasheetVersion: ver11.1, Jan-2003; PackageVersion: ver14.3, Jul-2006; PackageReference: PLCC84; Publisher: Altium Limited; PackageDescription: 84-Pin Plastic J-Lead Chip Carrier (PLCC84); Supplier 1: Digi-Key; Supplier Part Number 1: 544-2256-5-ND; Code_JEDEC: MS-018-AF; Code_IPC: PLCC-84; ComponentLink1Description: Manufacturer Link; ComponentLink1URL: http://www.altera.com/products/devices/flex8k/f8k-index.html; ComponentLink2Description: Datasheet; ComponentLink2URL: http://www.altera.com/literature/ds/dsf8k.pdf
footprint PLCC84_N (Leaded Chip Carrier, 84-Leads, Body 29.3x29.3mm, Pitch 1.27mm, IPC Medium Density)
footprint PLCC84_L (Leaded Chip Carrier, 84-Leads, Body 29.3x29.3mm, Pitch 1.27mm, IPC High Density)
footprint PLCC84_M (Leaded Chip Carrier, 84-Leads, Body 29.3x29.3mm, Pitch 1.27mm, IPC Low Density)
3D model EPF8452A-PLCC84 (84-Pin Plastic J-Lead Chip Carrier (PLCC84))
pins: 1 I/O (io), 2 DATA7 (io), 3 I/O (io), 4 DATA6 (io), 5 GND (power), 6 DATA5 (io), 7 DATA4 (io), 8 DATA3 (io), 9 DATA2 (io), 10 DCLK (in), 11 CONF_DONE (in), 12 IN (in), 13 DATA1 (io), 14 DATA0 (io), 15 I/O (io), 16 I/O (io), 17 VCCINT (power), 18 I/O (io), 19 I/O (io), 20 I/O (io), 21 I/O (io), 22 I/O (io), 23 I/O (io), 24 I/O (io), 25 I/O (io), 26 GND (power), 27 I/O (io), 28 CS (io), 29 nCS (io), 30 nWS (io), 31 IN (in), 32 nSTATUS (in), 33 nCONFIG (in), 34 I/O (io), 35 I/O (io), 36 I/O (io), 37 I/O (io), 38 VCCINT (power), 39 I/O (io), 40 I/O (io), 41 I/O (io), 42 I/O (io), 43 I/O (io), 44 I/O (io), 45 I/O (io), 46 I/O (io), 47 GND (power), 48 nRS (io), 49 RDCLK (io), 50 CLKUSR (io), 51 ADD17 (io), 52 VCC (in), 53 MSEL1 (in), 54 IN (in), 55 ADD16 (io), 56 ADD15 (io), 57 ADD14 (io), 58 ADD13 (io), 59 VCCINT (power), 60 ADD12 (io), 61 ADD11 (io), 62 ADD10 (io), 63 ADD9 (io), 64 ADD8 (io), 65 ADD7 (io), 66 ADD6 (io), 67 ADD5 (io), 68 GND (power), 69 ADD4 (io), 70 ADD3 (io), 71 ADD2 (io), 72 ADD1 (io), 73 IN (in), 74 MSEL0 (in), 75 nSP (in), 76 ADD0 (io), 77 RDYnBUSY (io), 78 SDOUT (io), 79 I/O (io), 80 VCCINT (power), 81 I/O (io), 82 I/O (io), 83 I/O (io), 84 I/O (io)

## EPF8452ALC84-4
designator U?
FLEX EPF8452A 5.0V PLD, 68 User IO Pins, 84-Pin PLCC, Speed Grade 4, Commercial Grade; Published: 24-Nov-2000; LatestRevisionDate: 13-Apr-2006; LatestRevisionNote: IPC-7351 Footprint Added.; DatasheetVersion: ver11.1, Jan-2003; PackageVersion: ver14.3, Jul-2006; PackageReference: PLCC84; Publisher: Altium Limited; PackageDescription: 84-Pin Plastic J-Lead Chip Carrier (PLCC84); Supplier 1: Digi-Key; Supplier Part Number 1: 544-2257-5-ND; Code_JEDEC: MS-018-AF; Code_IPC: PLCC-84; ComponentLink1Description: Manufacturer Link; ComponentLink1URL: http://www.altera.com/products/devices/flex8k/f8k-index.html; ComponentLink2Description: Datasheet; ComponentLink2URL: http://www.altera.com/literature/ds/dsf8k.pdf
footprint PLCC84_N (Leaded Chip Carrier, 84-Leads, Body 29.3x29.3mm, Pitch 1.27mm, IPC Medium Density)
footprint PLCC84_L (Leaded Chip Carrier, 84-Leads, Body 29.3x29.3mm, Pitch 1.27mm, IPC High Density)
footprint PLCC84_M (Leaded Chip Carrier, 84-Leads, Body 29.3x29.3mm, Pitch 1.27mm, IPC Low Density)
3D model EPF8452A-PLCC84 (84-Pin Plastic J-Lead Chip Carrier (PLCC84))
pins: 1 I/O (io), 2 DATA7 (io), 3 I/O (io), 4 DATA6 (io), 5 GND (power), 6 DATA5 (io), 7 DATA4 (io), 8 DATA3 (io), 9 DATA2 (io), 10 DCLK (in), 11 CONF_DONE (in), 12 IN (in), 13 DATA1 (io), 14 DATA0 (io), 15 I/O (io), 16 I/O (io), 17 VCCINT (power), 18 I/O (io), 19 I/O (io), 20 I/O (io), 21 I/O (io), 22 I/O (io), 23 I/O (io), 24 I/O (io), 25 I/O (io), 26 GND (power), 27 I/O (io), 28 CS (io), 29 nCS (io), 30 nWS (io), 31 IN (in), 32 nSTATUS (in), 33 nCONFIG (in), 34 I/O (io), 35 I/O (io), 36 I/O (io), 37 I/O (io), 38 VCCINT (power), 39 I/O (io), 40 I/O (io), 41 I/O (io), 42 I/O (io), 43 I/O (io), 44 I/O (io), 45 I/O (io), 46 I/O (io), 47 GND (power), 48 nRS (io), 49 RDCLK (io), 50 CLKUSR (io), 51 ADD17 (io), 52 VCC (in), 53 MSEL1 (in), 54 IN (in), 55 ADD16 (io), 56 ADD15 (io), 57 ADD14 (io), 58 ADD13 (io), 59 VCCINT (power), 60 ADD12 (io), 61 ADD11 (io), 62 ADD10 (io), 63 ADD9 (io), 64 ADD8 (io), 65 ADD7 (io), 66 ADD6 (io), 67 ADD5 (io), 68 GND (power), 69 ADD4 (io), 70 ADD3 (io), 71 ADD2 (io), 72 ADD1 (io), 73 IN (in), 74 MSEL0 (in), 75 nSP (in), 76 ADD0 (io), 77 RDYnBUSY (io), 78 SDOUT (io), 79 I/O (io), 80 VCCINT (power), 81 I/O (io), 82 I/O (io), 83 I/O (io), 84 I/O (io)

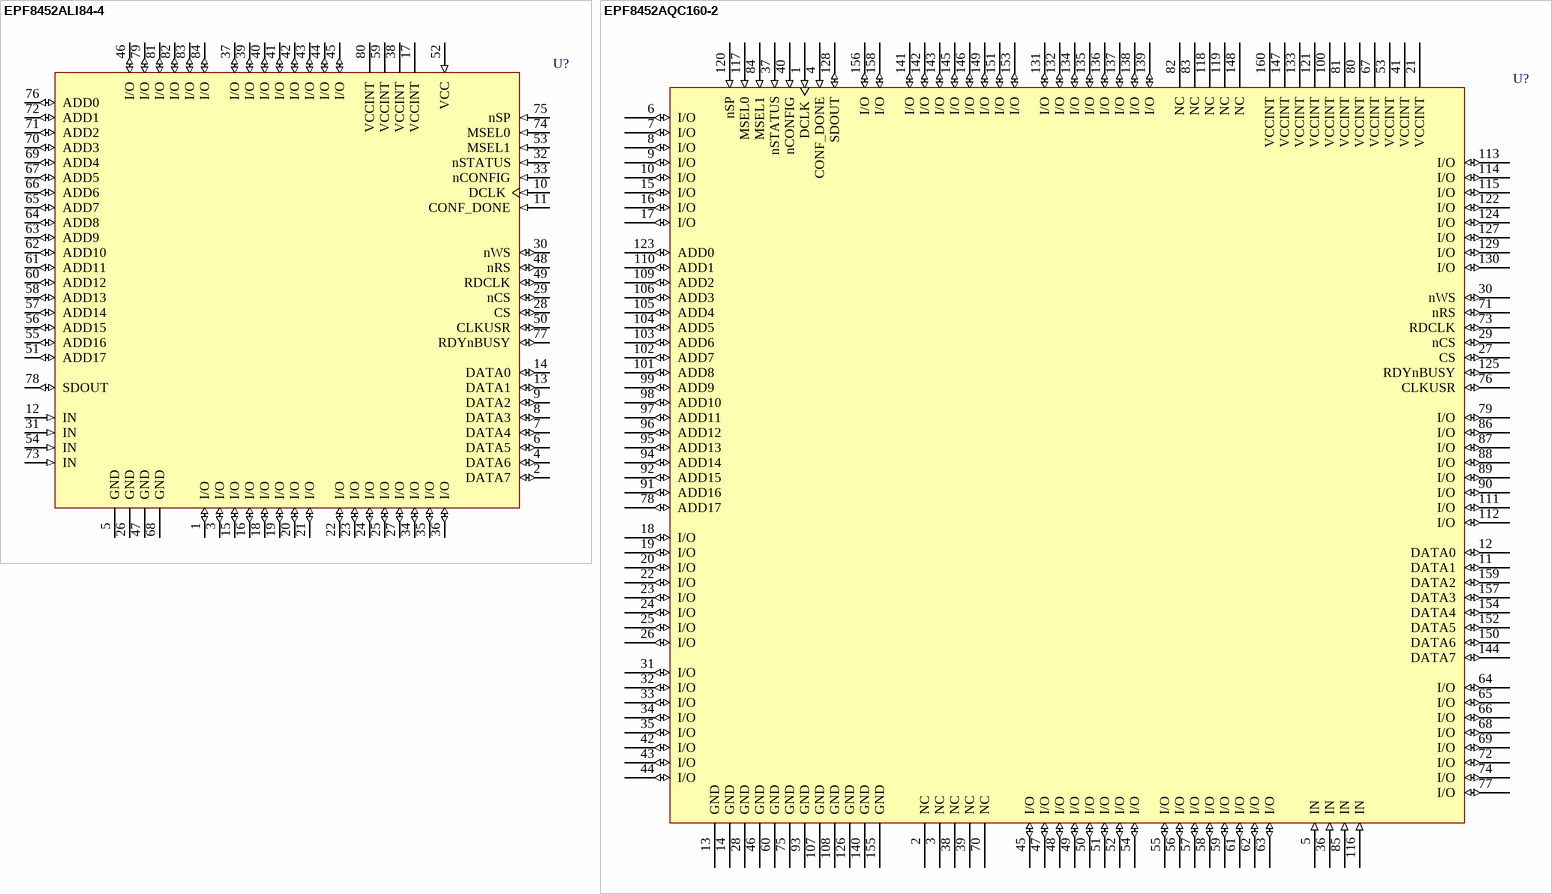
[diagram p3: symbols EPF8452ALI84-4 to EPF8452AQC160-2]

## EPF8452ALI84-4
designator U?
FLEX EPF8452A 5.0V PLD, 68 User IO Pins, 84-Pin PLCC, Speed Grade 4, Industrial Grade; Published: 24-Nov-2000; LatestRevisionDate: 13-Apr-2006; LatestRevisionNote: IPC-7351 Footprint Added.; DatasheetVersion: ver11.1, Jan-2003; PackageVersion: ver14.3, Jul-2006; PackageReference: PLCC84; Publisher: Altium Limited; PackageDescription: 84-Pin Plastic J-Lead Chip Carrier (PLCC84); Code_JEDEC: MS-018-AF; Code_IPC: PLCC-84; ComponentLink1Description: Manufacturer Link; ComponentLink1URL: http://www.altera.com/products/devices/flex8k/f8k-index.html; ComponentLink2Description: Datasheet; ComponentLink2URL: http://www.altera.com/literature/ds/dsf8k.pdf
footprint PLCC84_N (Leaded Chip Carrier, 84-Leads, Body 29.3x29.3mm, Pitch 1.27mm, IPC Medium Density)
footprint PLCC84_L (Leaded Chip Carrier, 84-Leads, Body 29.3x29.3mm, Pitch 1.27mm, IPC High Density)
footprint PLCC84_M (Leaded Chip Carrier, 84-Leads, Body 29.3x29.3mm, Pitch 1.27mm, IPC Low Density)
3D model EPF8452A-PLCC84 (84-Pin Plastic J-Lead Chip Carrier (PLCC84))
pins: 1 I/O (io), 2 DATA7 (io), 3 I/O (io), 4 DATA6 (io), 5 GND (power), 6 DATA5 (io), 7 DATA4 (io), 8 DATA3 (io), 9 DATA2 (io), 10 DCLK (in), 11 CONF_DONE (in), 12 IN (in), 13 DATA1 (io), 14 DATA0 (io), 15 I/O (io), 16 I/O (io), 17 VCCINT (power), 18 I/O (io), 19 I/O (io), 20 I/O (io), 21 I/O (io), 22 I/O (io), 23 I/O (io), 24 I/O (io), 25 I/O (io), 26 GND (power), 27 I/O (io), 28 CS (io), 29 nCS (io), 30 nWS (io), 31 IN (in), 32 nSTATUS (in), 33 nCONFIG (in), 34 I/O (io), 35 I/O (io), 36 I/O (io), 37 I/O (io), 38 VCCINT (power), 39 I/O (io), 40 I/O (io), 41 I/O (io), 42 I/O (io), 43 I/O (io), 44 I/O (io), 45 I/O (io), 46 I/O (io), 47 GND (power), 48 nRS (io), 49 RDCLK (io), 50 CLKUSR (io), 51 ADD17 (io), 52 VCC (in), 53 MSEL1 (in), 54 IN (in), 55 ADD16 (io), 56 ADD15 (io), 57 ADD14 (io), 58 ADD13 (io), 59 VCCINT (power), 60 ADD12 (io), 61 ADD11 (io), 62 ADD10 (io), 63 ADD9 (io), 64 ADD8 (io), 65 ADD7 (io), 66 ADD6 (io), 67 ADD5 (io), 68 GND (power), 69 ADD4 (io), 70 ADD3 (io), 71 ADD2 (io), 72 ADD1 (io), 73 IN (in), 74 MSEL0 (in), 75 nSP (in), 76 ADD0 (io), 77 RDYnBUSY (io), 78 SDOUT (io), 79 I/O (io), 80 VCCINT (power), 81 I/O (io), 82 I/O (io), 83 I/O (io), 84 I/O (io)

## EPF8452AQC160-2
designator U?
FLEX EPF8452A 5.0V PLD, 120 User IO Pins, 160-Pin PQFP, Speed Grade 2, Commercial Grade; Published: 24-Nov-2000; LatestRevisionDate: 13-Apr-2006; LatestRevisionNote: IPC-7351 Footprint Added.; DatasheetVersion: ver11.1, Jan-2003; PackageVersion: ver14.3, Jul-2006; PackageReference: PQFP160; Publisher: Altium Limited; PackageDescription: 160-Pin Plastic Quad Flat Pack (PFQP160); Code_JEDEC: MS-022-DD-1; Code_IPC: QFP65P3120X3120-160; ComponentLink1Description: Manufacturer Link; ComponentLink1URL: http://www.altera.com/products/devices/flex8k/f8k-index.html; ComponentLink2Description: Datasheet; ComponentLink2URL: http://www.altera.com/literature/ds/dsf8k.pdf
footprint PQFP160_N (QFP, 160-Leads, Body 28x28mm, Pitch 0.65mm, IPC Medium Density)
footprint PQFP160_L (QFP, 160-Leads, Body 28x28mm, Pitch 0.65mm, IPC High Density)
footprint PQFP160_M (QFP, 160-Leads, Body 28x28mm, Pitch 0.65mm, IPC Low Density)
3D model EPF8452A-PQFP160 (160-Pin Plastic Quad Flat Pack (PFQP160))
pins: 1 DCLK (in), 2 NC, 3 NC, 4 CONF_DONE (in), 5 IN (in), 6 I/O (io), 7 I/O (io), 8 I/O (io), 9 I/O (io), 10 I/O (io), 11 DATA1 (io), 12 DATA0 (io), 13 GND (power), 14 GND (power), 15 I/O (io), 16 I/O (io), 17 I/O (io), 18 I/O (io), 19 I/O (io), 20 I/O (io), 21 VCCINT (power), 22 I/O (io), 23 I/O (io), 24 I/O (io), 25 I/O (io), 26 I/O (io), 27 CS (io), 28 GND (power), 29 nCS (io), 30 nWS (io), 31 I/O (io), 32 I/O (io), 33 I/O (io), 34 I/O (io), 35 I/O (io), 36 IN (in), 37 nSTATUS (in), 38 NC, 39 NC, 40 nCONFIG (in), 41 VCCINT (power), 42 I/O (io), 43 I/O (io), 44 I/O (io), 45 I/O (io), 46 GND (power), 47 I/O (io), 48 I/O (io), 49 I/O (io), 50 I/O (io), 51 I/O (io), 52 I/O (io), 53 VCCINT (power), 54 I/O (io), 55 I/O (io), 56 I/O (io), 57 I/O (io), 58 I/O (io), 59 I/O (io), 60 GND (power), 61 I/O (io), 62 I/O (io), 63 I/O (io), 64 I/O (io), 65 I/O (io), 66 I/O (io), 67 VCCINT (power), 68 I/O (io), 69 I/O (io), 70 NC, 71 nRS (io), 72 I/O (io), 73 RDCLK (io), 74 I/O (io), 75 GND (power), 76 CLKUSR (io), 77 I/O (io), 78 ADD17 (io), 79 I/O (io), 80 VCCINT (power), 81 VCCINT (power), 82 NC, 83 NC, 84 MSEL1 (in), 85 IN (in), 86 I/O (io), 87 I/O (io), 88 I/O (io), 89 I/O (io), 90 I/O (io), 91 ADD16 (io), 92 ADD15 (io), 93 GND (power), 94 ADD14 (io), 95 ADD13 (io), 96 ADD12 (io), 97 ADD11 (io), 98 ADD10 (io), 99 ADD9 (io), 100 VCCINT (power), 101 ADD8 (io), 102 ADD7 (io), 103 ADD6 (io), 104 ADD5 (io), 105 ADD4 (io), 106 ADD3 (io), 107 GND (power), 108 GND (power), 109 ADD2 (io), 110 ADD1 (io), 111 I/O (io), 112 I/O (io), 113 I/O (io), 114 I/O (io), 115 I/O (io), 116 IN (in), 117 MSEL0 (in), 118 NC, 119 NC, 120 nSP (in), 121 VCCINT (power), 122 I/O (io), 123 ADD0 (io), 124 I/O (io), 125 RDYnBUSY (io), 126 GND (power), 127 I/O (io), 128 SDOUT (io), 129 I/O (io), 130 I/O (io), 131 I/O (io), 132 I/O (io), 133 VCCINT (power), 134 I/O (io), 135 I/O (io), 136 I/O (io), 137 I/O (io), 138 I/O (io), 139 I/O (io), 140 GND (power), 141 I/O (io), 142 I/O (io), 143 I/O (io), 144 DATA7 (io), 145 I/O (io), 146 I/O (io), 147 VCCINT (power), 148 NC, 149 I/O (io), 150 DATA6 (io), 151 I/O (io), 152 DATA5 (io), 153 I/O (io), 154 DATA4 (io), 155 GND (power), 156 I/O (io), 157 DATA3 (io), 158 I/O (io), 159 DATA2 (io), 160 VCCINT (power)

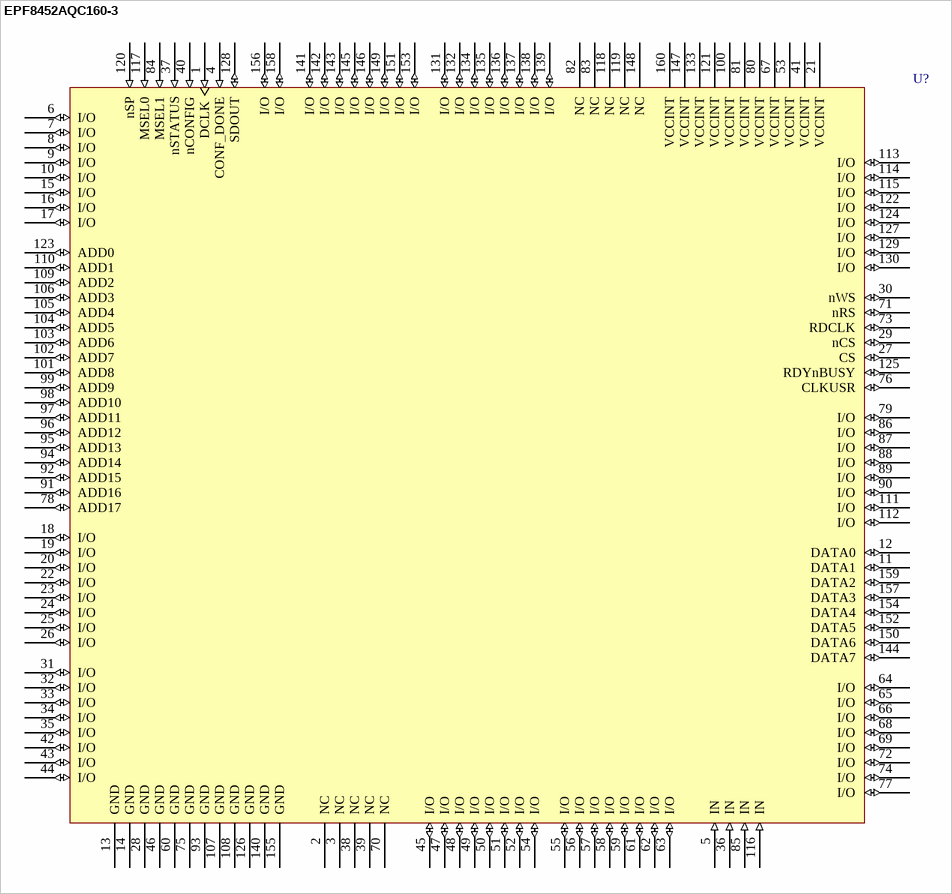
[diagram p4: symbol EPF8452AQC160-3]

## EPF8452AQC160-3
designator U?
FLEX EPF8452A 5.0V PLD, 120 User IO Pins, 160-Pin PQFP, Speed Grade 3, Commercial Grade; Published: 24-Nov-2000; LatestRevisionDate: 13-Apr-2006; LatestRevisionNote: IPC-7351 Footprint Added.; DatasheetVersion: ver11.1, Jan-2003; PackageVersion: ver14.3, Jul-2006; PackageReference: PQFP160; Publisher: Altium Limited; PackageDescription: 160-Pin Plastic Quad Flat Pack (PFQP160); Supplier 1: Digi-Key; Supplier Part Number 1: 544-2258-ND; Code_JEDEC: MS-022-DD-1; Code_IPC: QFP65P3120X3120-160; ComponentLink1Description: Manufacturer Link; ComponentLink1URL: http://www.altera.com/products/devices/flex8k/f8k-index.html; ComponentLink2Description: Datasheet; ComponentLink2URL: http://www.altera.com/literature/ds/dsf8k.pdf
footprint PQFP160_N (QFP, 160-Leads, Body 28x28mm, Pitch 0.65mm, IPC Medium Density)
footprint PQFP160_L (QFP, 160-Leads, Body 28x28mm, Pitch 0.65mm, IPC High Density)
footprint PQFP160_M (QFP, 160-Leads, Body 28x28mm, Pitch 0.65mm, IPC Low Density)
3D model EPF8452A-PQFP160 (160-Pin Plastic Quad Flat Pack (PFQP160))
pins: 1 DCLK (in), 2 NC, 3 NC, 4 CONF_DONE (in), 5 IN (in), 6 I/O (io), 7 I/O (io), 8 I/O (io), 9 I/O (io), 10 I/O (io), 11 DATA1 (io), 12 DATA0 (io), 13 GND (power), 14 GND (power), 15 I/O (io), 16 I/O (io), 17 I/O (io), 18 I/O (io), 19 I/O (io), 20 I/O (io), 21 VCCINT (power), 22 I/O (io), 23 I/O (io), 24 I/O (io), 25 I/O (io), 26 I/O (io), 27 CS (io), 28 GND (power), 29 nCS (io), 30 nWS (io), 31 I/O (io), 32 I/O (io), 33 I/O (io), 34 I/O (io), 35 I/O (io), 36 IN (in), 37 nSTATUS (in), 38 NC, 39 NC, 40 nCONFIG (in), 41 VCCINT (power), 42 I/O (io), 43 I/O (io), 44 I/O (io), 45 I/O (io), 46 GND (power), 47 I/O (io), 48 I/O (io), 49 I/O (io), 50 I/O (io), 51 I/O (io), 52 I/O (io), 53 VCCINT (power), 54 I/O (io), 55 I/O (io), 56 I/O (io), 57 I/O (io), 58 I/O (io), 59 I/O (io), 60 GND (power), 61 I/O (io), 62 I/O (io), 63 I/O (io), 64 I/O (io), 65 I/O (io), 66 I/O (io), 67 VCCINT (power), 68 I/O (io), 69 I/O (io), 70 NC, 71 nRS (io), 72 I/O (io), 73 RDCLK (io), 74 I/O (io), 75 GND (power), 76 CLKUSR (io), 77 I/O (io), 78 ADD17 (io), 79 I/O (io), 80 VCCINT (power), 81 VCCINT (power), 82 NC, 83 NC, 84 MSEL1 (in), 85 IN (in), 86 I/O (io), 87 I/O (io), 88 I/O (io), 89 I/O (io), 90 I/O (io), 91 ADD16 (io), 92 ADD15 (io), 93 GND (power), 94 ADD14 (io), 95 ADD13 (io), 96 ADD12 (io), 97 ADD11 (io), 98 ADD10 (io), 99 ADD9 (io), 100 VCCINT (power), 101 ADD8 (io), 102 ADD7 (io), 103 ADD6 (io), 104 ADD5 (io), 105 ADD4 (io), 106 ADD3 (io), 107 GND (power), 108 GND (power), 109 ADD2 (io), 110 ADD1 (io), 111 I/O (io), 112 I/O (io), 113 I/O (io), 114 I/O (io), 115 I/O (io), 116 IN (in), 117 MSEL0 (in), 118 NC, 119 NC, 120 nSP (in), 121 VCCINT (power), 122 I/O (io), 123 ADD0 (io), 124 I/O (io), 125 RDYnBUSY (io), 126 GND (power), 127 I/O (io), 128 SDOUT (io), 129 I/O (io), 130 I/O (io), 131 I/O (io), 132 I/O (io), 133 VCCINT (power), 134 I/O (io), 135 I/O (io), 136 I/O (io), 137 I/O (io), 138 I/O (io), 139 I/O (io), 140 GND (power), 141 I/O (io), 142 I/O (io), 143 I/O (io), 144 DATA7 (io), 145 I/O (io), 146 I/O (io), 147 VCCINT (power), 148 NC, 149 I/O (io), 150 DATA6 (io), 151 I/O (io), 152 DATA5 (io), 153 I/O (io), 154 DATA4 (io), 155 GND (power), 156 I/O (io), 157 DATA3 (io), 158 I/O (io), 159 DATA2 (io), 160 VCCINT (power)

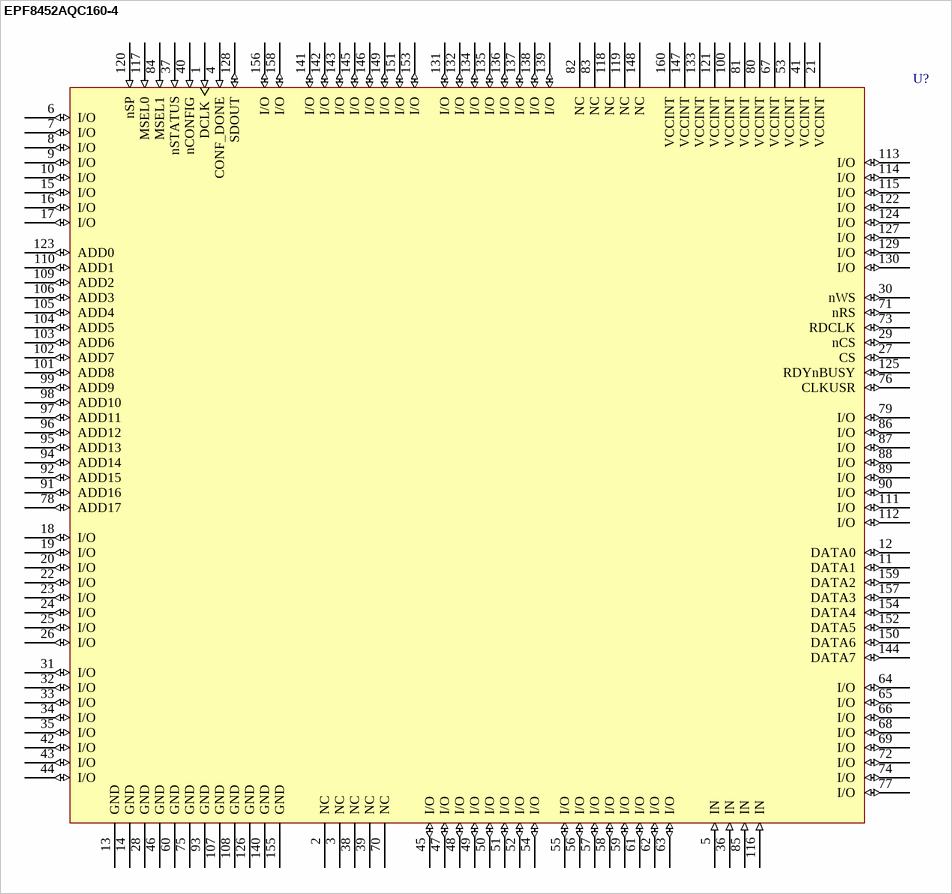
[diagram p5: symbol EPF8452AQC160-4]

## EPF8452AQC160-4
designator U?
FLEX EPF8452A 5.0V PLD, 120 User IO Pins, 160-Pin PQFP, Speed Grade 4, Commercial Grade; Published: 24-Nov-2000; LatestRevisionDate: 13-Apr-2006; LatestRevisionNote: IPC-7351 Footprint Added.; DatasheetVersion: ver11.1, Jan-2003; PackageVersion: ver14.3, Jul-2006; PackageReference: PQFP160; Publisher: Altium Limited; PackageDescription: 160-Pin Plastic Quad Flat Pack (PFQP160); Supplier 1: Digi-Key; Supplier Part Number 1: 544-2259-ND; Code_JEDEC: MS-022-DD-1; Code_IPC: QFP65P3120X3120-160; ComponentLink1Description: Manufacturer Link; ComponentLink1URL: http://www.altera.com/products/devices/flex8k/f8k-index.html; ComponentLink2Description: Datasheet; ComponentLink2URL: http://www.altera.com/literature/ds/dsf8k.pdf
footprint PQFP160_N (QFP, 160-Leads, Body 28x28mm, Pitch 0.65mm, IPC Medium Density)
footprint PQFP160_L (QFP, 160-Leads, Body 28x28mm, Pitch 0.65mm, IPC High Density)
footprint PQFP160_M (QFP, 160-Leads, Body 28x28mm, Pitch 0.65mm, IPC Low Density)
3D model EPF8452A-PQFP160 (160-Pin Plastic Quad Flat Pack (PFQP160))
pins: 1 DCLK (in), 2 NC, 3 NC, 4 CONF_DONE (in), 5 IN (in), 6 I/O (io), 7 I/O (io), 8 I/O (io), 9 I/O (io), 10 I/O (io), 11 DATA1 (io), 12 DATA0 (io), 13 GND (power), 14 GND (power), 15 I/O (io), 16 I/O (io), 17 I/O (io), 18 I/O (io), 19 I/O (io), 20 I/O (io), 21 VCCINT (power), 22 I/O (io), 23 I/O (io), 24 I/O (io), 25 I/O (io), 26 I/O (io), 27 CS (io), 28 GND (power), 29 nCS (io), 30 nWS (io), 31 I/O (io), 32 I/O (io), 33 I/O (io), 34 I/O (io), 35 I/O (io), 36 IN (in), 37 nSTATUS (in), 38 NC, 39 NC, 40 nCONFIG (in), 41 VCCINT (power), 42 I/O (io), 43 I/O (io), 44 I/O (io), 45 I/O (io), 46 GND (power), 47 I/O (io), 48 I/O (io), 49 I/O (io), 50 I/O (io), 51 I/O (io), 52 I/O (io), 53 VCCINT (power), 54 I/O (io), 55 I/O (io), 56 I/O (io), 57 I/O (io), 58 I/O (io), 59 I/O (io), 60 GND (power), 61 I/O (io), 62 I/O (io), 63 I/O (io), 64 I/O (io), 65 I/O (io), 66 I/O (io), 67 VCCINT (power), 68 I/O (io), 69 I/O (io), 70 NC, 71 nRS (io), 72 I/O (io), 73 RDCLK (io), 74 I/O (io), 75 GND (power), 76 CLKUSR (io), 77 I/O (io), 78 ADD17 (io), 79 I/O (io), 80 VCCINT (power), 81 VCCINT (power), 82 NC, 83 NC, 84 MSEL1 (in), 85 IN (in), 86 I/O (io), 87 I/O (io), 88 I/O (io), 89 I/O (io), 90 I/O (io), 91 ADD16 (io), 92 ADD15 (io), 93 GND (power), 94 ADD14 (io), 95 ADD13 (io), 96 ADD12 (io), 97 ADD11 (io), 98 ADD10 (io), 99 ADD9 (io), 100 VCCINT (power), 101 ADD8 (io), 102 ADD7 (io), 103 ADD6 (io), 104 ADD5 (io), 105 ADD4 (io), 106 ADD3 (io), 107 GND (power), 108 GND (power), 109 ADD2 (io), 110 ADD1 (io), 111 I/O (io), 112 I/O (io), 113 I/O (io), 114 I/O (io), 115 I/O (io), 116 IN (in), 117 MSEL0 (in), 118 NC, 119 NC, 120 nSP (in), 121 VCCINT (power), 122 I/O (io), 123 ADD0 (io), 124 I/O (io), 125 RDYnBUSY (io), 126 GND (power), 127 I/O (io), 128 SDOUT (io), 129 I/O (io), 130 I/O (io), 131 I/O (io), 132 I/O (io), 133 VCCINT (power), 134 I/O (io), 135 I/O (io), 136 I/O (io), 137 I/O (io), 138 I/O (io), 139 I/O (io), 140 GND (power), 141 I/O (io), 142 I/O (io), 143 I/O (io), 144 DATA7 (io), 145 I/O (io), 146 I/O (io), 147 VCCINT (power), 148 NC, 149 I/O (io), 150 DATA6 (io), 151 I/O (io), 152 DATA5 (io), 153 I/O (io), 154 DATA4 (io), 155 GND (power), 156 I/O (io), 157 DATA3 (io), 158 I/O (io), 159 DATA2 (io), 160 VCCINT (power)

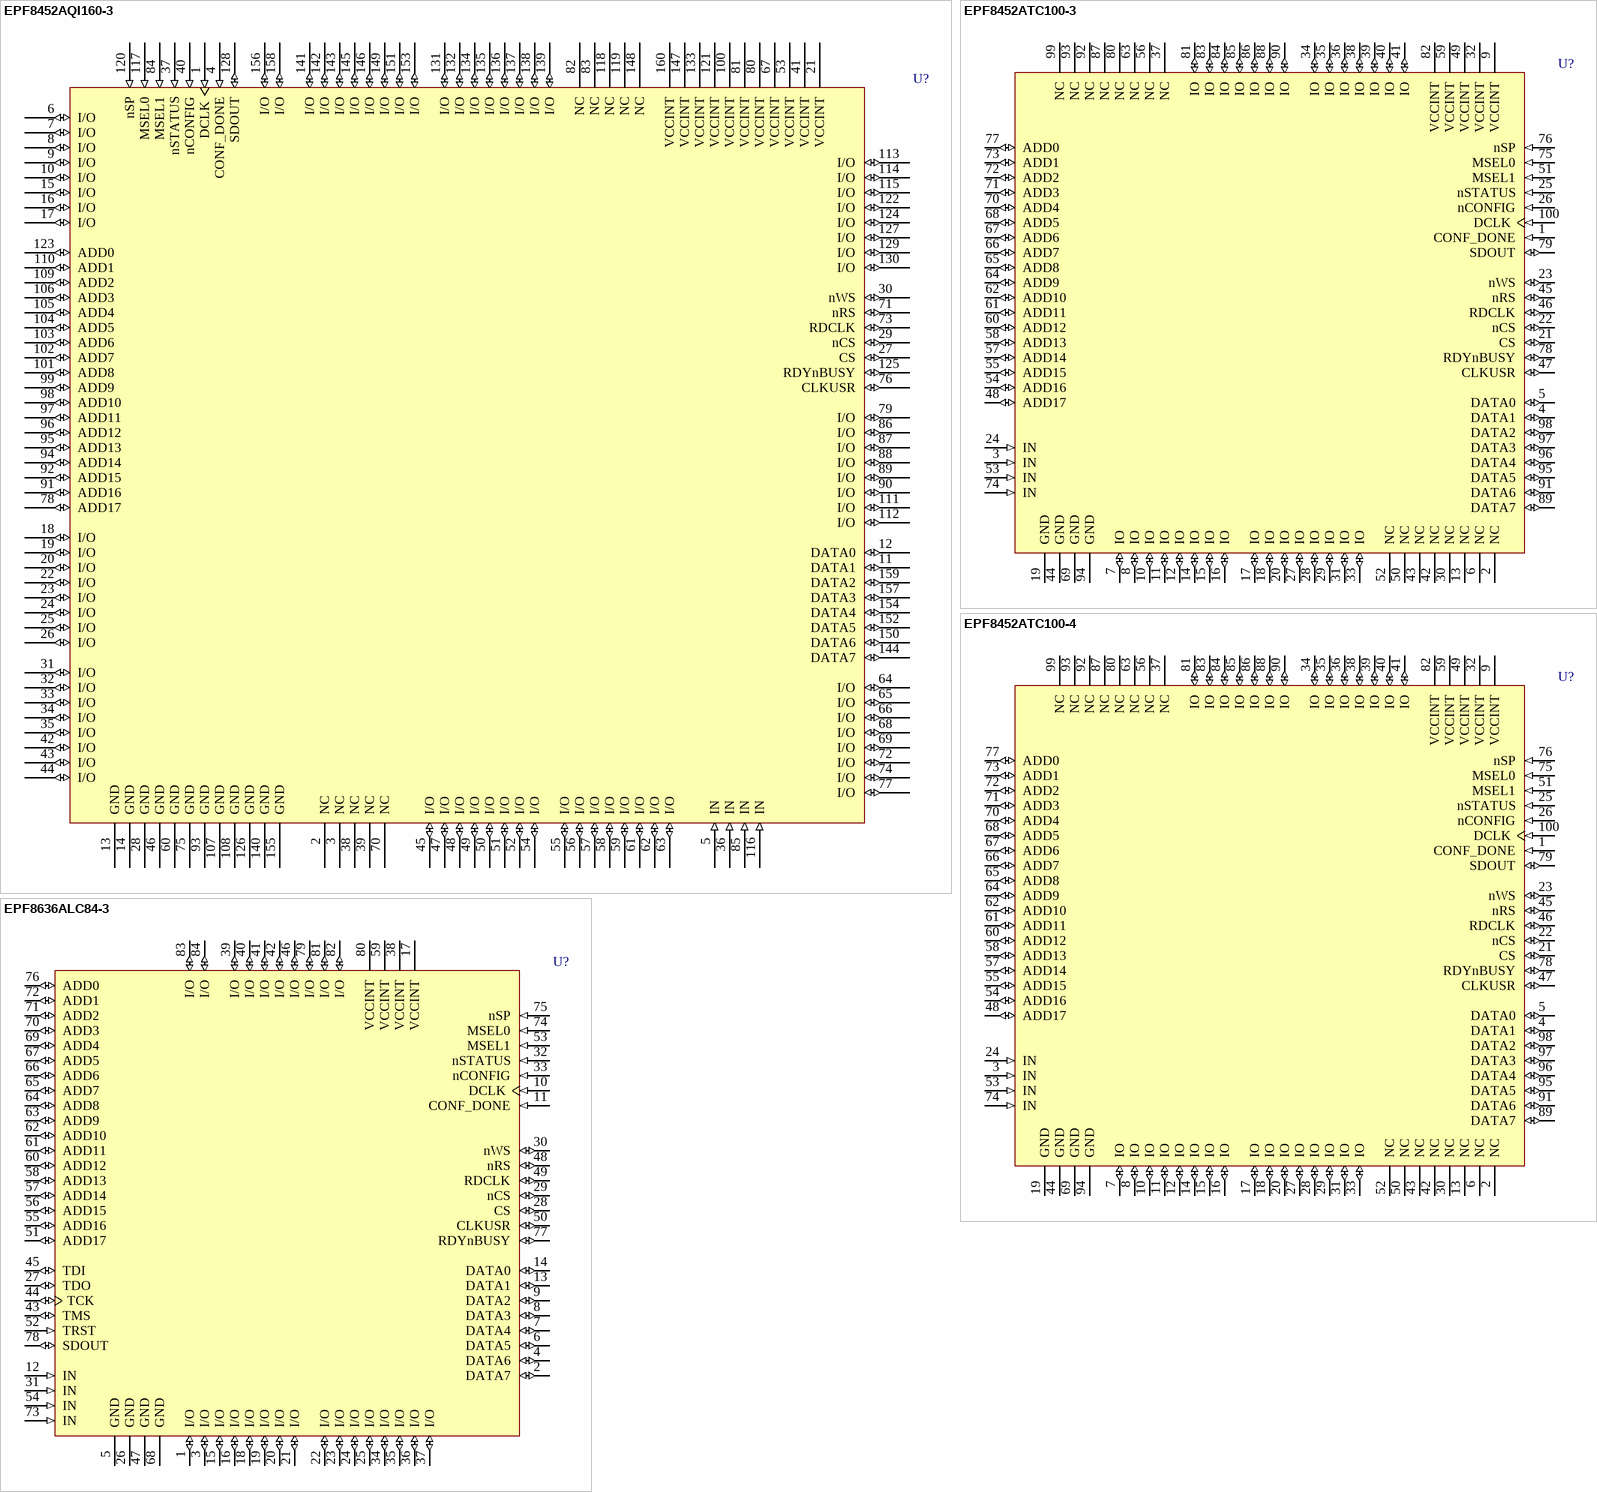
[diagram p6: symbols EPF8452AQI160-3 to EPF8636ALC84-3]

## EPF8452AQI160-3
designator U?
FLEX EPF8452A 5.0V PLD, 120 User IO Pins, 160-Pin PQFP, Speed Grade 3, Industrial Grade; ComponentAvailability: Obsolete; Published: 24-Nov-2000; LatestRevisionDate: 13-Apr-2006; LatestRevisionNote: IPC-7351 Footprint Added.; DatasheetVersion: Jun-1999; PackageVersion: ver14.3, Jul-2006; PackageReference: PQFP160; Publisher: Altium Limited; PackageDescription: 160-Pin Plastic Quad Flat Pack (PFQP160); Code_JEDEC: MS-022-DD-1; Code_IPC: QFP65P3120X3120-160; ComponentLink1Description: Manufacturer Link; ComponentLink1URL: http://www.altera.com/products/devices/flex8k/f8k-index.html; ComponentLink2Description: Datasheet; ComponentLink2URL: http://www.altera.com/literature/ds/dsf8k.pdf; ComponentLink3Description: Discontinuation Notice; ComponentLink3URL: http://www.altera.com/literature/pcn/pdn0314.pdf
footprint PQFP160_N (QFP, 160-Leads, Body 28x28mm, Pitch 0.65mm, IPC Medium Density)
footprint PQFP160_L (QFP, 160-Leads, Body 28x28mm, Pitch 0.65mm, IPC High Density)
footprint PQFP160_M (QFP, 160-Leads, Body 28x28mm, Pitch 0.65mm, IPC Low Density)
3D model EPF8452A-PQFP160 (160-Pin Plastic Quad Flat Pack (PFQP160))
pins: 1 DCLK (in), 2 NC, 3 NC, 4 CONF_DONE (in), 5 IN (in), 6 I/O (io), 7 I/O (io), 8 I/O (io), 9 I/O (io), 10 I/O (io), 11 DATA1 (io), 12 DATA0 (io), 13 GND (power), 14 GND (power), 15 I/O (io), 16 I/O (io), 17 I/O (io), 18 I/O (io), 19 I/O (io), 20 I/O (io), 21 VCCINT (power), 22 I/O (io), 23 I/O (io), 24 I/O (io), 25 I/O (io), 26 I/O (io), 27 CS (io), 28 GND (power), 29 nCS (io), 30 nWS (io), 31 I/O (io), 32 I/O (io), 33 I/O (io), 34 I/O (io), 35 I/O (io), 36 IN (in), 37 nSTATUS (in), 38 NC, 39 NC, 40 nCONFIG (in), 41 VCCINT (power), 42 I/O (io), 43 I/O (io), 44 I/O (io), 45 I/O (io), 46 GND (power), 47 I/O (io), 48 I/O (io), 49 I/O (io), 50 I/O (io), 51 I/O (io), 52 I/O (io), 53 VCCINT (power), 54 I/O (io), 55 I/O (io), 56 I/O (io), 57 I/O (io), 58 I/O (io), 59 I/O (io), 60 GND (power), 61 I/O (io), 62 I/O (io), 63 I/O (io), 64 I/O (io), 65 I/O (io), 66 I/O (io), 67 VCCINT (power), 68 I/O (io), 69 I/O (io), 70 NC, 71 nRS (io), 72 I/O (io), 73 RDCLK (io), 74 I/O (io), 75 GND (power), 76 CLKUSR (io), 77 I/O (io), 78 ADD17 (io), 79 I/O (io), 80 VCCINT (power), 81 VCCINT (power), 82 NC, 83 NC, 84 MSEL1 (in), 85 IN (in), 86 I/O (io), 87 I/O (io), 88 I/O (io), 89 I/O (io), 90 I/O (io), 91 ADD16 (io), 92 ADD15 (io), 93 GND (power), 94 ADD14 (io), 95 ADD13 (io), 96 ADD12 (io), 97 ADD11 (io), 98 ADD10 (io), 99 ADD9 (io), 100 VCCINT (power), 101 ADD8 (io), 102 ADD7 (io), 103 ADD6 (io), 104 ADD5 (io), 105 ADD4 (io), 106 ADD3 (io), 107 GND (power), 108 GND (power), 109 ADD2 (io), 110 ADD1 (io), 111 I/O (io), 112 I/O (io), 113 I/O (io), 114 I/O (io), 115 I/O (io), 116 IN (in), 117 MSEL0 (in), 118 NC, 119 NC, 120 nSP (in), 121 VCCINT (power), 122 I/O (io), 123 ADD0 (io), 124 I/O (io), 125 RDYnBUSY (io), 126 GND (power), 127 I/O (io), 128 SDOUT (io), 129 I/O (io), 130 I/O (io), 131 I/O (io), 132 I/O (io), 133 VCCINT (power), 134 I/O (io), 135 I/O (io), 136 I/O (io), 137 I/O (io), 138 I/O (io), 139 I/O (io), 140 GND (power), 141 I/O (io), 142 I/O (io), 143 I/O (io), 144 DATA7 (io), 145 I/O (io), 146 I/O (io), 147 VCCINT (power), 148 NC, 149 I/O (io), 150 DATA6 (io), 151 I/O (io), 152 DATA5 (io), 153 I/O (io), 154 DATA4 (io), 155 GND (power), 156 I/O (io), 157 DATA3 (io), 158 I/O (io), 159 DATA2 (io), 160 VCCINT (power)

## EPF8452ATC100-3
designator U?
FLEX EPF8452A 5.0V PLD, 68 User IO Pins, 100-Pin TQFP, Speed Grade 3, Commercial Grade; Published: 24-Nov-2000; LatestRevisionDate: 13-Apr-2006; LatestRevisionNote: IPC-7351 Footprint Added.; DatasheetVersion: ver11.1, Jan-2003; PackageVersion: ver15.1, May-2008; PackageReference: TQFP100; Publisher: Altium Limited; PackageDescription: 100-Pin Plastic Thin Quad Flat Pack (TQFP100) - Wire Bond; Code_JEDEC: MS-026-AED; ComponentLink1Description: Manufacturer Link; ComponentLink1URL: http://www.altera.com/products/devices/flex8k/f8k-index.html; ComponentLink2Description: Datasheet; ComponentLink2URL: http://www.altera.com/literature/ds/dsf8k.pdf
footprint TQFP100_N (Thin QFP, 100-Leads, Body 14x14mm, Pitch 0.5mm, IPC Medium Density)
footprint TQFP100_L (Thin QFP, 100-Leads, Body 14x14mm, Pitch 0.5mm, IPC High Density)
footprint TQFP100_M (Thin QFP, 100-Leads, Body 14x14mm, Pitch 0.5mm, IPC Low Density)
3D model EPF8452A-TQFP100 (100-Pin Plastic Thin Quad Flat Pack (TQFP100) - Wire Bond)
pins: 1 CONF_DONE (in), 2 NC, 3 IN (in), 4 DATA1 (io), 5 DATA0 (io), 6 NC, 7 IO (io), 8 IO (io), 9 VCCINT (power), 10 IO (io), 11 IO (io), 12 IO (io), 13 NC, 14 IO (io), 15 IO (io), 16 IO (io), 17 IO (io), 18 IO (io), 19 GND (power), 20 IO (io), 21 CS (io), 22 nCS (io), 23 nWS (io), 24 IN (in), 25 nSTATUS (in), 26 nCONFIG (in), 27 IO (io), 28 IO (io), 29 IO (io), 30 NC, 31 IO (io), 32 VCCINT (power), 33 IO (io), 34 IO (io), 35 IO (io), 36 IO (io), 37 NC, 38 IO (io), 39 IO (io), 40 IO (io), 41 IO (io), 42 NC, 43 NC, 44 GND (power), 45 nRS (io), 46 RDCLK (io), 47 CLKUSR (io), 48 ADD17 (io), 49 VCCINT (power), 50 NC, 51 MSEL1 (in), 52 NC, 53 IN (in), 54 ADD16 (io), 55 ADD15 (io), 56 NC, 57 ADD14 (io), 58 ADD13 (io), 59 VCCINT (power), 60 ADD12 (io), 61 ADD11 (io), 62 ADD10 (io), 63 NC, 64 ADD9 (io), 65 ADD8 (io), 66 ADD7 (io), 67 ADD6 (io), 68 ADD5 (io), 69 GND (power), 70 ADD4 (io), 71 ADD3 (io), 72 ADD2 (io), 73 ADD1 (io), 74 IN (in), 75 MSEL0 (in), 76 nSP (in), 77 ADD0 (io), 78 RDYnBUSY (io), 79 SDOUT (io), 80 NC, 81 IO (io), 82 VCCINT (power), 83 IO (io), 84 IO (io), 85 IO (io), 86 IO (io), 87 NC, 88 IO (io), 89 DATA7 (io), 90 IO (io), 91 DATA6 (io), 92 NC, 93 NC, 94 GND (power), 95 DATA5 (io), 96 DATA4 (io), 97 DATA3 (io), 98 DATA2 (io), 99 NC, 100 DCLK (in)

## EPF8452ATC100-4
designator U?
FLEX EPF8452A 5.0V PLD, 68 User IO Pins, 100-Pin TQFP, Speed Grade 4, Commercial Grade; Published: 24-Nov-2000; LatestRevisionDate: 13-Apr-2006; LatestRevisionNote: IPC-7351 Footprint Added.; DatasheetVersion: ver11.1, Jan-2003; PackageVersion: ver15.1, May-2008; PackageReference: TQFP100; Publisher: Altium Limited; PackageDescription: 100-Pin Plastic Thin Quad Flat Pack (TQFP100) - Wire Bond; Supplier 1: Digi-Key; Supplier Part Number 1: 544-2260-ND; Code_JEDEC: MS-026-AED; ComponentLink1Description: Manufacturer Link; ComponentLink1URL: http://www.altera.com/products/devices/flex8k/f8k-index.html; ComponentLink2Description: Datasheet; ComponentLink2URL: http://www.altera.com/literature/ds/dsf8k.pdf
footprint TQFP100_N (Thin QFP, 100-Leads, Body 14x14mm, Pitch 0.5mm, IPC Medium Density)
footprint TQFP100_L (Thin QFP, 100-Leads, Body 14x14mm, Pitch 0.5mm, IPC High Density)
footprint TQFP100_M (Thin QFP, 100-Leads, Body 14x14mm, Pitch 0.5mm, IPC Low Density)
3D model EPF8452A-TQFP100 (100-Pin Plastic Thin Quad Flat Pack (TQFP100) - Wire Bond)
pins: 1 CONF_DONE (in), 2 NC, 3 IN (in), 4 DATA1 (io), 5 DATA0 (io), 6 NC, 7 IO (io), 8 IO (io), 9 VCCINT (power), 10 IO (io), 11 IO (io), 12 IO (io), 13 NC, 14 IO (io), 15 IO (io), 16 IO (io), 17 IO (io), 18 IO (io), 19 GND (power), 20 IO (io), 21 CS (io), 22 nCS (io), 23 nWS (io), 24 IN (in), 25 nSTATUS (in), 26 nCONFIG (in), 27 IO (io), 28 IO (io), 29 IO (io), 30 NC, 31 IO (io), 32 VCCINT (power), 33 IO (io), 34 IO (io), 35 IO (io), 36 IO (io), 37 NC, 38 IO (io), 39 IO (io), 40 IO (io), 41 IO (io), 42 NC, 43 NC, 44 GND (power), 45 nRS (io), 46 RDCLK (io), 47 CLKUSR (io), 48 ADD17 (io), 49 VCCINT (power), 50 NC, 51 MSEL1 (in), 52 NC, 53 IN (in), 54 ADD16 (io), 55 ADD15 (io), 56 NC, 57 ADD14 (io), 58 ADD13 (io), 59 VCCINT (power), 60 ADD12 (io), 61 ADD11 (io), 62 ADD10 (io), 63 NC, 64 ADD9 (io), 65 ADD8 (io), 66 ADD7 (io), 67 ADD6 (io), 68 ADD5 (io), 69 GND (power), 70 ADD4 (io), 71 ADD3 (io), 72 ADD2 (io), 73 ADD1 (io), 74 IN (in), 75 MSEL0 (in), 76 nSP (in), 77 ADD0 (io), 78 RDYnBUSY (io), 79 SDOUT (io), 80 NC, 81 IO (io), 82 VCCINT (power), 83 IO (io), 84 IO (io), 85 IO (io), 86 IO (io), 87 NC, 88 IO (io), 89 DATA7 (io), 90 IO (io), 91 DATA6 (io), 92 NC, 93 NC, 94 GND (power), 95 DATA5 (io), 96 DATA4 (io), 97 DATA3 (io), 98 DATA2 (io), 99 NC, 100 DCLK (in)